# Altium integrated library ST Microcontroller 8-Bit.IntLib: 1326 symbols (part 24 of 31)
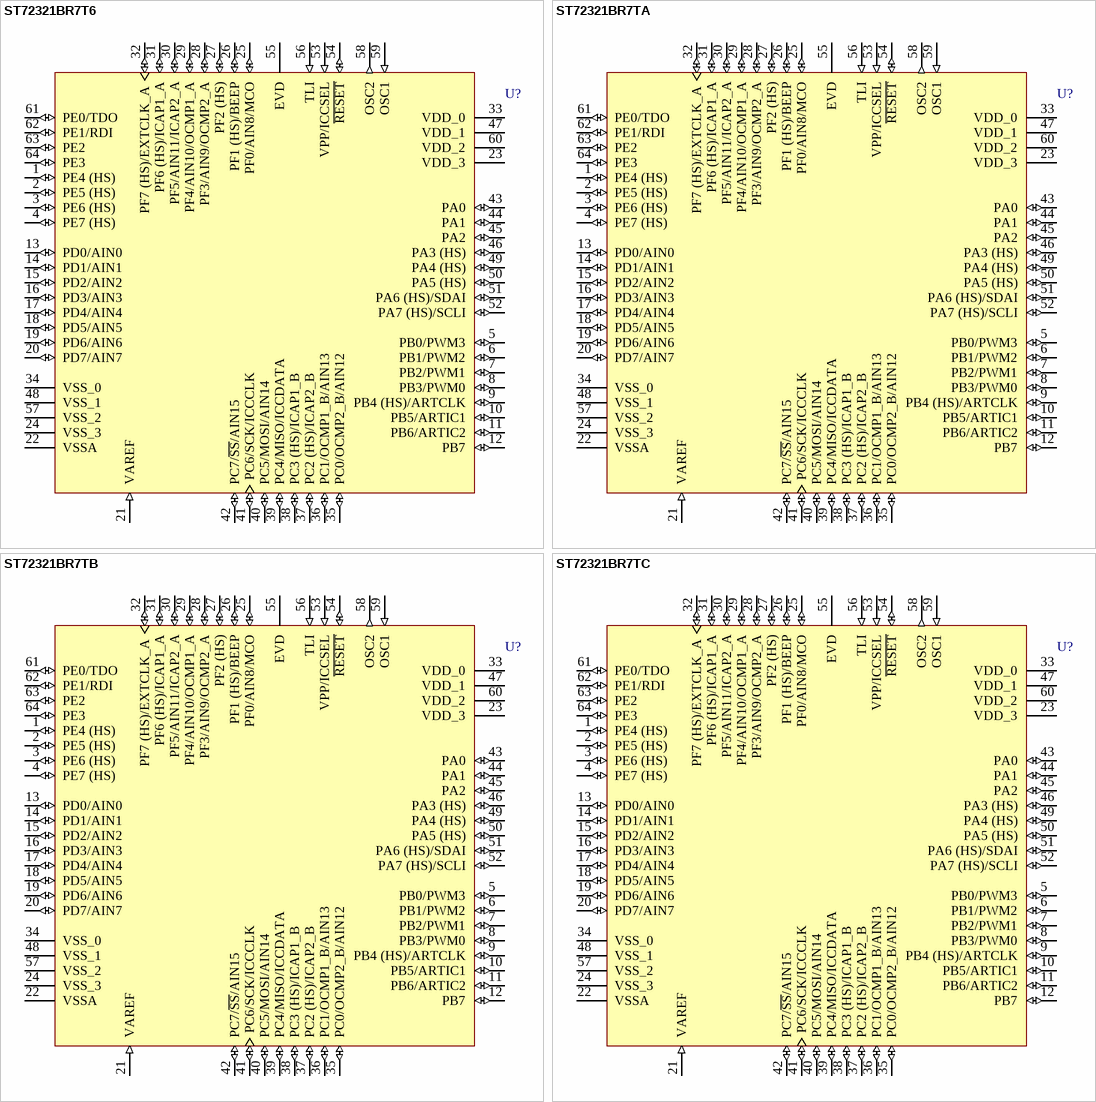
[diagram p190: symbols ST72321BR7T6 to ST72321BR7TC]

## ST72321BR7TC
designator U?
8-Bit MCU with 48k ROM, 1536b RAM, Five Timers, SPI, SCI and I²C Interfaces, 64-Pin TQFP, Automotive; PackageDocument: rev2.4, Jan-2002; Note: Pins 5-12, 25-27 and 43-46 are External Interrupt (EI) pins.; Published: 26-May-2004; DatasheetDocument: rev1.1, Oct-2003; PackageReference: TQFP64-0.8; Publisher: Altium Limited
footprint TQFP64-0.8 (QFP, Thin; 64 Leads; Body 14 x 14 mm; Pitch 0.8 mm)
pins: 1 PE4 (HS) (io), 2 PE5 (HS) (io), 3 PE6 (HS) (io), 4 PE7 (HS) (io), 5 PB0/PWM3 (io), 6 PB1/PWM2 (io), 7 PB2/PWM1 (io), 8 PB3/PWM0 (io), 9 PB4 (HS)/ARTCLK (io), 10 PB5/ARTIC1 (io), 11 PB6/ARTIC2 (io), 12 PB7 (io), 13 PD0/AIN0 (io), 14 PD1/AIN1 (io), 15 PD2/AIN2 (io), 16 PD3/AIN3 (io), 17 PD4/AIN4 (io), 18 PD5/AIN5 (io), 19 PD6/AIN6 (io), 20 PD7/AIN7 (io), 21 VAREF (in), 22 VSSA (power), 23 VDD_3 (power), 24 VSS_3 (power), 25 PF0/AIN8/MCO (io), 26 PF1 (HS)/BEEP (io), 27 PF2 (HS) (io), 28 PF3/AIN9/OCMP2_A (io), 29 PF4/AIN10/OCMP1_A (io), 30 PF5/AIN11/ICAP2_A (io), 31 PF6 (HS)/ICAP1_A (io), 32 PF7 (HS)/EXTCLK_A (io), 33 VDD_0 (power), 34 VSS_0 (power), 35 PC0/OCMP2_B/AIN12 (io), 36 PC1/OCMP1_B/AIN13 (io), 37 PC2 (HS)/ICAP2_B (io), 38 PC3 (HS)/ICAP1_B (io), 39 PC4/MISO/ICCDATA (io), 40 PC5/MOSI/AIN14 (io), 41 PC6/SCK/ICCCLK (io), 42 PC7/~{SS}/AIN15 (io), 43 PA0 (io), 44 PA1 (io), 45 PA2 (io), 46 PA3 (HS) (io), 47 VDD_1 (power), 48 VSS_1 (power), 49 PA4 (HS) (io), 50 PA5 (HS) (io), 51 PA6 (HS)/SDAI (io), 52 PA7 (HS)/SCLI (io), 53 VPP/ICCSEL (in), 54 ~{RESET} (io), 55 EVD, 56 TLI (in), 57 VSS_2 (power), 58 OSC2 (out), 59 OSC1 (in), 60 VDD_2 (power), 61 PE0/TDO (io), 62 PE1/RDI (io), 63 PE2 (io), 64 PE3 (io)

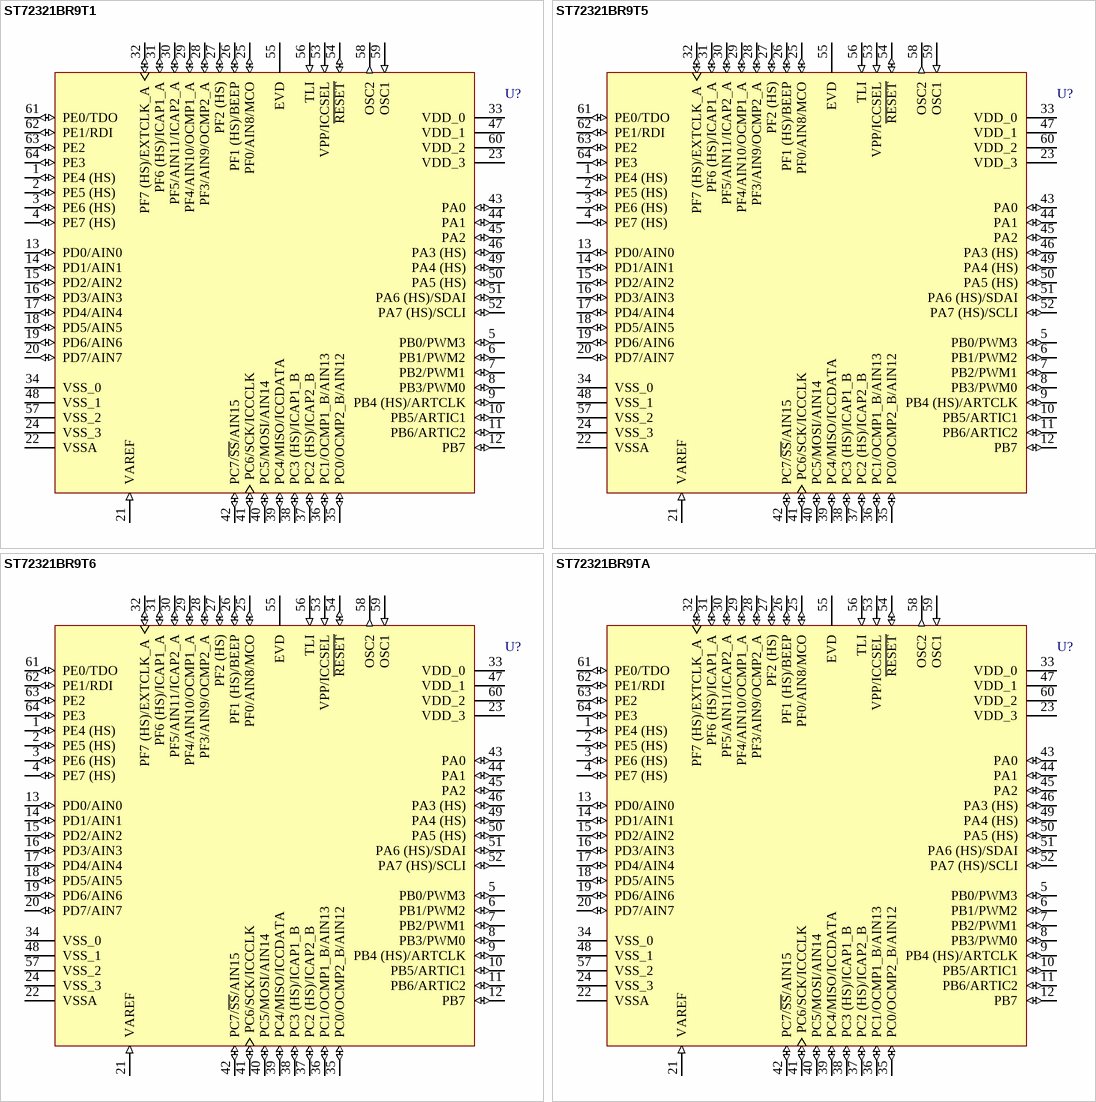
[diagram p122: symbols ST72321BR9T1 to ST72321BR9TA]

## ST72321BR9T1
designator U?
8-Bit MCU with 60k ROM, 2048b RAM, Five Timers, SPI, SCI and I²C Interfaces, 64-Pin TQFP, Standard; PackageDocument: rev2.4, Jan-2002; Note: Pins 5-12, 25-27 and 43-46 are External Interrupt (EI) pins.; Published: 26-May-2004; DatasheetDocument: rev1.1, Oct-2003; PackageReference: TQFP64-0.8; Publisher: Altium Limited
footprint TQFP64-0.8 (QFP, Thin; 64 Leads; Body 14 x 14 mm; Pitch 0.8 mm)
pins: 1 PE4 (HS) (io), 2 PE5 (HS) (io), 3 PE6 (HS) (io), 4 PE7 (HS) (io), 5 PB0/PWM3 (io), 6 PB1/PWM2 (io), 7 PB2/PWM1 (io), 8 PB3/PWM0 (io), 9 PB4 (HS)/ARTCLK (io), 10 PB5/ARTIC1 (io), 11 PB6/ARTIC2 (io), 12 PB7 (io), 13 PD0/AIN0 (io), 14 PD1/AIN1 (io), 15 PD2/AIN2 (io), 16 PD3/AIN3 (io), 17 PD4/AIN4 (io), 18 PD5/AIN5 (io), 19 PD6/AIN6 (io), 20 PD7/AIN7 (io), 21 VAREF (in), 22 VSSA (power), 23 VDD_3 (power), 24 VSS_3 (power), 25 PF0/AIN8/MCO (io), 26 PF1 (HS)/BEEP (io), 27 PF2 (HS) (io), 28 PF3/AIN9/OCMP2_A (io), 29 PF4/AIN10/OCMP1_A (io), 30 PF5/AIN11/ICAP2_A (io), 31 PF6 (HS)/ICAP1_A (io), 32 PF7 (HS)/EXTCLK_A (io), 33 VDD_0 (power), 34 VSS_0 (power), 35 PC0/OCMP2_B/AIN12 (io), 36 PC1/OCMP1_B/AIN13 (io), 37 PC2 (HS)/ICAP2_B (io), 38 PC3 (HS)/ICAP1_B (io), 39 PC4/MISO/ICCDATA (io), 40 PC5/MOSI/AIN14 (io), 41 PC6/SCK/ICCCLK (io), 42 PC7/~{SS}/AIN15 (io), 43 PA0 (io), 44 PA1 (io), 45 PA2 (io), 46 PA3 (HS) (io), 47 VDD_1 (power), 48 VSS_1 (power), 49 PA4 (HS) (io), 50 PA5 (HS) (io), 51 PA6 (HS)/SDAI (io), 52 PA7 (HS)/SCLI (io), 53 VPP/ICCSEL (in), 54 ~{RESET} (io), 55 EVD, 56 TLI (in), 57 VSS_2 (power), 58 OSC2 (out), 59 OSC1 (in), 60 VDD_2 (power), 61 PE0/TDO (io), 62 PE1/RDI (io), 63 PE2 (io), 64 PE3 (io)

## ST72321BR9T5
designator U?
8-Bit MCU with 60k ROM, 2048b RAM, Five Timers, SPI, SCI and I²C Interfaces, 64-Pin TQFP, Standard; PackageDocument: rev2.4, Jan-2002; Note: Pins 5-12, 25-27 and 43-46 are External Interrupt (EI) pins.; Published: 26-May-2004; DatasheetDocument: rev1.1, Oct-2003; PackageReference: TQFP64-0.8; Publisher: Altium Limited
footprint TQFP64-0.8 (QFP, Thin; 64 Leads; Body 14 x 14 mm; Pitch 0.8 mm)
pins: 1 PE4 (HS) (io), 2 PE5 (HS) (io), 3 PE6 (HS) (io), 4 PE7 (HS) (io), 5 PB0/PWM3 (io), 6 PB1/PWM2 (io), 7 PB2/PWM1 (io), 8 PB3/PWM0 (io), 9 PB4 (HS)/ARTCLK (io), 10 PB5/ARTIC1 (io), 11 PB6/ARTIC2 (io), 12 PB7 (io), 13 PD0/AIN0 (io), 14 PD1/AIN1 (io), 15 PD2/AIN2 (io), 16 PD3/AIN3 (io), 17 PD4/AIN4 (io), 18 PD5/AIN5 (io), 19 PD6/AIN6 (io), 20 PD7/AIN7 (io), 21 VAREF (in), 22 VSSA (power), 23 VDD_3 (power), 24 VSS_3 (power), 25 PF0/AIN8/MCO (io), 26 PF1 (HS)/BEEP (io), 27 PF2 (HS) (io), 28 PF3/AIN9/OCMP2_A (io), 29 PF4/AIN10/OCMP1_A (io), 30 PF5/AIN11/ICAP2_A (io), 31 PF6 (HS)/ICAP1_A (io), 32 PF7 (HS)/EXTCLK_A (io), 33 VDD_0 (power), 34 VSS_0 (power), 35 PC0/OCMP2_B/AIN12 (io), 36 PC1/OCMP1_B/AIN13 (io), 37 PC2 (HS)/ICAP2_B (io), 38 PC3 (HS)/ICAP1_B (io), 39 PC4/MISO/ICCDATA (io), 40 PC5/MOSI/AIN14 (io), 41 PC6/SCK/ICCCLK (io), 42 PC7/~{SS}/AIN15 (io), 43 PA0 (io), 44 PA1 (io), 45 PA2 (io), 46 PA3 (HS) (io), 47 VDD_1 (power), 48 VSS_1 (power), 49 PA4 (HS) (io), 50 PA5 (HS) (io), 51 PA6 (HS)/SDAI (io), 52 PA7 (HS)/SCLI (io), 53 VPP/ICCSEL (in), 54 ~{RESET} (io), 55 EVD, 56 TLI (in), 57 VSS_2 (power), 58 OSC2 (out), 59 OSC1 (in), 60 VDD_2 (power), 61 PE0/TDO (io), 62 PE1/RDI (io), 63 PE2 (io), 64 PE3 (io)

## ST72321BR9T6
designator U?
8-Bit MCU with 60k ROM, 2048b RAM, Five Timers, SPI, SCI and I²C Interfaces, 64-Pin TQFP, Standard; PackageDocument: rev2.4, Jan-2002; Note: Pins 5-12, 25-27 and 43-46 are External Interrupt (EI) pins.; Published: 26-May-2004; DatasheetDocument: rev1.1, Oct-2003; PackageReference: TQFP64-0.8; Publisher: Altium Limited
footprint TQFP64-0.8 (QFP, Thin; 64 Leads; Body 14 x 14 mm; Pitch 0.8 mm)
pins: 1 PE4 (HS) (io), 2 PE5 (HS) (io), 3 PE6 (HS) (io), 4 PE7 (HS) (io), 5 PB0/PWM3 (io), 6 PB1/PWM2 (io), 7 PB2/PWM1 (io), 8 PB3/PWM0 (io), 9 PB4 (HS)/ARTCLK (io), 10 PB5/ARTIC1 (io), 11 PB6/ARTIC2 (io), 12 PB7 (io), 13 PD0/AIN0 (io), 14 PD1/AIN1 (io), 15 PD2/AIN2 (io), 16 PD3/AIN3 (io), 17 PD4/AIN4 (io), 18 PD5/AIN5 (io), 19 PD6/AIN6 (io), 20 PD7/AIN7 (io), 21 VAREF (in), 22 VSSA (power), 23 VDD_3 (power), 24 VSS_3 (power), 25 PF0/AIN8/MCO (io), 26 PF1 (HS)/BEEP (io), 27 PF2 (HS) (io), 28 PF3/AIN9/OCMP2_A (io), 29 PF4/AIN10/OCMP1_A (io), 30 PF5/AIN11/ICAP2_A (io), 31 PF6 (HS)/ICAP1_A (io), 32 PF7 (HS)/EXTCLK_A (io), 33 VDD_0 (power), 34 VSS_0 (power), 35 PC0/OCMP2_B/AIN12 (io), 36 PC1/OCMP1_B/AIN13 (io), 37 PC2 (HS)/ICAP2_B (io), 38 PC3 (HS)/ICAP1_B (io), 39 PC4/MISO/ICCDATA (io), 40 PC5/MOSI/AIN14 (io), 41 PC6/SCK/ICCCLK (io), 42 PC7/~{SS}/AIN15 (io), 43 PA0 (io), 44 PA1 (io), 45 PA2 (io), 46 PA3 (HS) (io), 47 VDD_1 (power), 48 VSS_1 (power), 49 PA4 (HS) (io), 50 PA5 (HS) (io), 51 PA6 (HS)/SDAI (io), 52 PA7 (HS)/SCLI (io), 53 VPP/ICCSEL (in), 54 ~{RESET} (io), 55 EVD, 56 TLI (in), 57 VSS_2 (power), 58 OSC2 (out), 59 OSC1 (in), 60 VDD_2 (power), 61 PE0/TDO (io), 62 PE1/RDI (io), 63 PE2 (io), 64 PE3 (io)

## ST72321BR9TA
designator U?
8-Bit MCU with 60k ROM, 2048b RAM, Five Timers, SPI, SCI and I²C Interfaces, 64-Pin TQFP, Automotive; PackageDocument: rev2.4, Jan-2002; Note: Pins 5-12, 25-27 and 43-46 are External Interrupt (EI) pins.; Published: 26-May-2004; DatasheetDocument: rev1.1, Oct-2003; PackageReference: TQFP64-0.8; Publisher: Altium Limited
footprint TQFP64-0.8 (QFP, Thin; 64 Leads; Body 14 x 14 mm; Pitch 0.8 mm)
pins: 1 PE4 (HS) (io), 2 PE5 (HS) (io), 3 PE6 (HS) (io), 4 PE7 (HS) (io), 5 PB0/PWM3 (io), 6 PB1/PWM2 (io), 7 PB2/PWM1 (io), 8 PB3/PWM0 (io), 9 PB4 (HS)/ARTCLK (io), 10 PB5/ARTIC1 (io), 11 PB6/ARTIC2 (io), 12 PB7 (io), 13 PD0/AIN0 (io), 14 PD1/AIN1 (io), 15 PD2/AIN2 (io), 16 PD3/AIN3 (io), 17 PD4/AIN4 (io), 18 PD5/AIN5 (io), 19 PD6/AIN6 (io), 20 PD7/AIN7 (io), 21 VAREF (in), 22 VSSA (power), 23 VDD_3 (power), 24 VSS_3 (power), 25 PF0/AIN8/MCO (io), 26 PF1 (HS)/BEEP (io), 27 PF2 (HS) (io), 28 PF3/AIN9/OCMP2_A (io), 29 PF4/AIN10/OCMP1_A (io), 30 PF5/AIN11/ICAP2_A (io), 31 PF6 (HS)/ICAP1_A (io), 32 PF7 (HS)/EXTCLK_A (io), 33 VDD_0 (power), 34 VSS_0 (power), 35 PC0/OCMP2_B/AIN12 (io), 36 PC1/OCMP1_B/AIN13 (io), 37 PC2 (HS)/ICAP2_B (io), 38 PC3 (HS)/ICAP1_B (io), 39 PC4/MISO/ICCDATA (io), 40 PC5/MOSI/AIN14 (io), 41 PC6/SCK/ICCCLK (io), 42 PC7/~{SS}/AIN15 (io), 43 PA0 (io), 44 PA1 (io), 45 PA2 (io), 46 PA3 (HS) (io), 47 VDD_1 (power), 48 VSS_1 (power), 49 PA4 (HS) (io), 50 PA5 (HS) (io), 51 PA6 (HS)/SDAI (io), 52 PA7 (HS)/SCLI (io), 53 VPP/ICCSEL (in), 54 ~{RESET} (io), 55 EVD, 56 TLI (in), 57 VSS_2 (power), 58 OSC2 (out), 59 OSC1 (in), 60 VDD_2 (power), 61 PE0/TDO (io), 62 PE1/RDI (io), 63 PE2 (io), 64 PE3 (io)

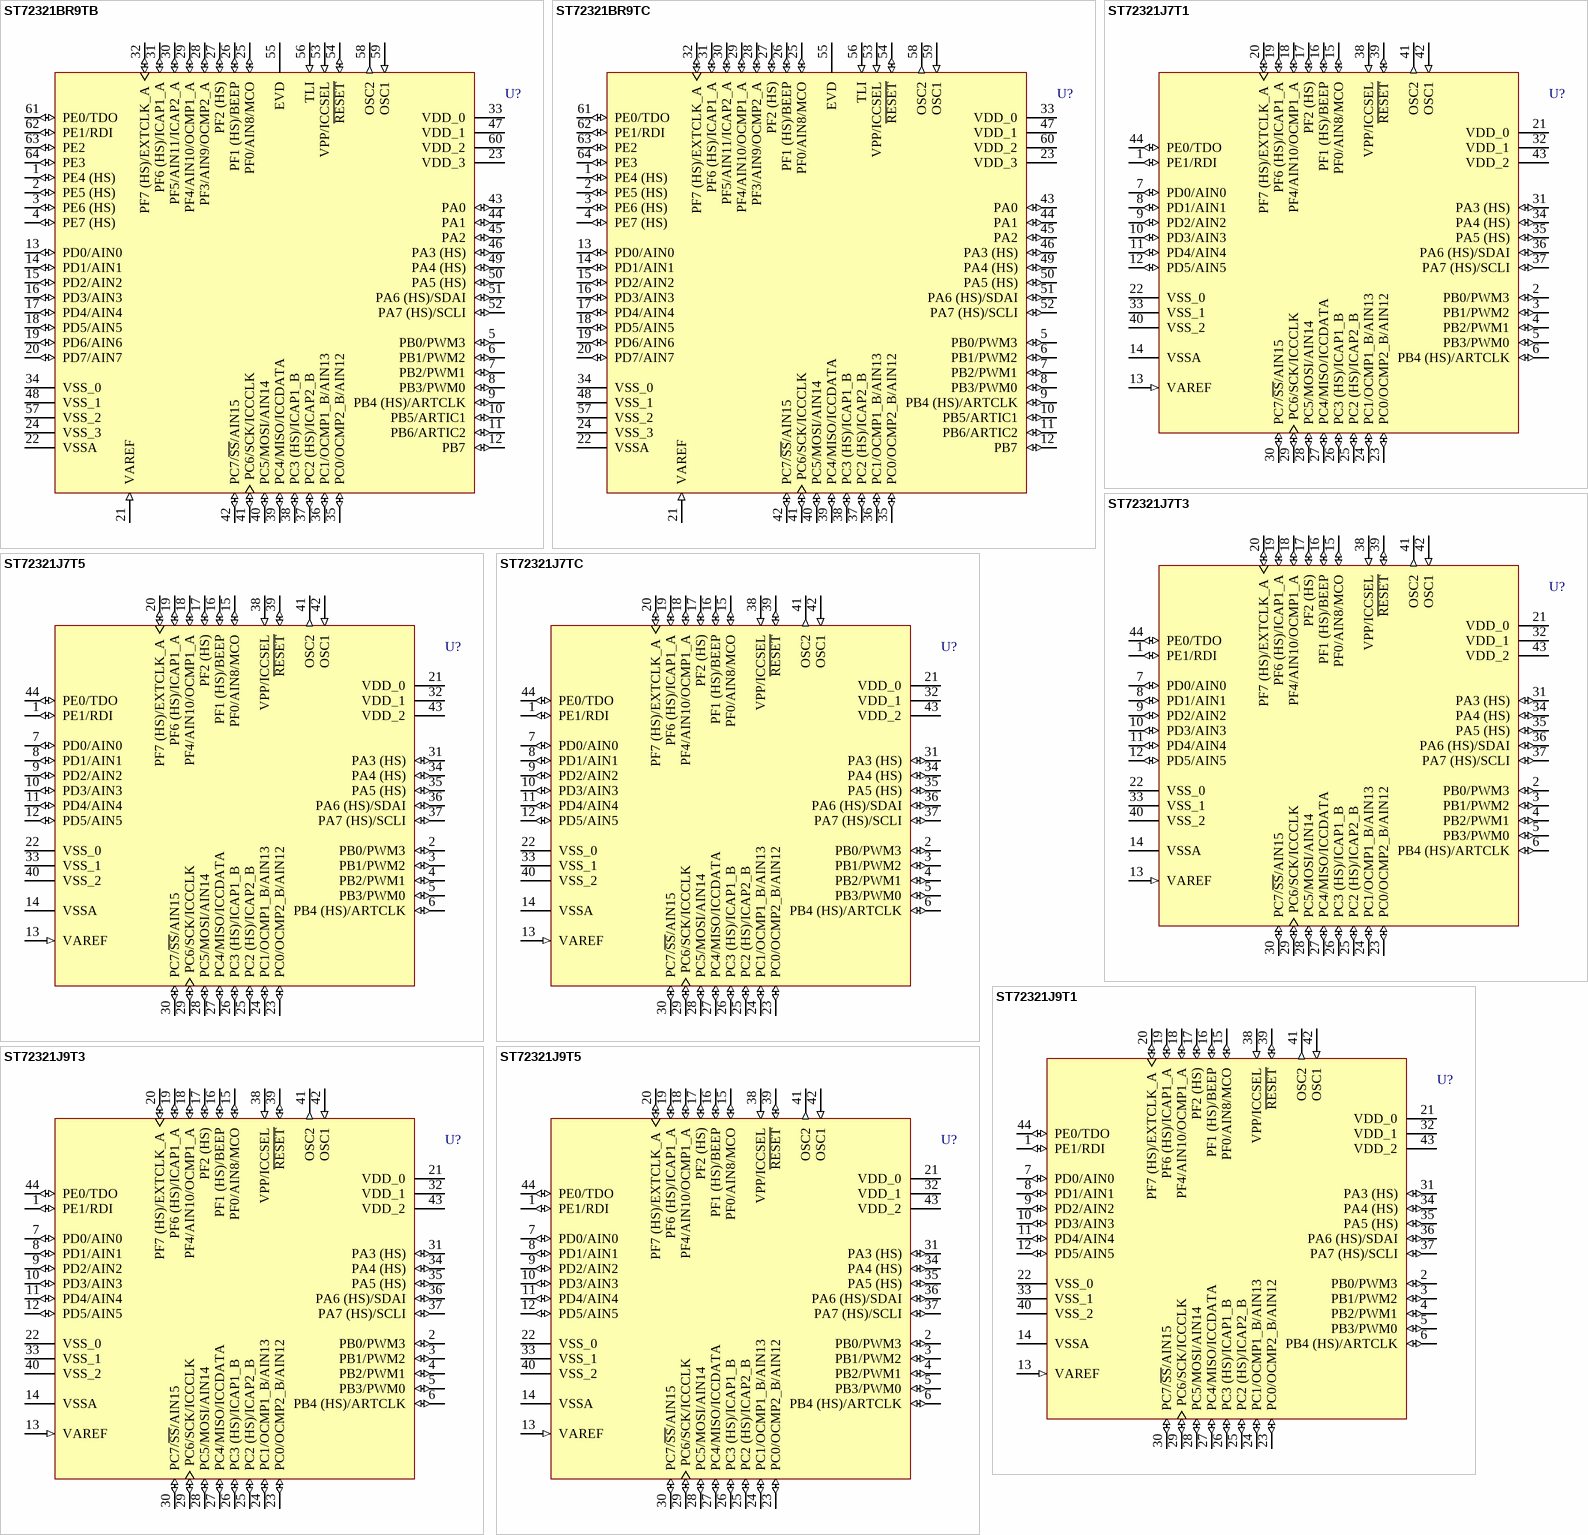
[diagram p123: symbols ST72321BR9TB to ST72321J9T5]

## ST72321BR9TB
designator U?
8-Bit MCU with 60k ROM, 2048b RAM, Five Timers, SPI, SCI and I²C Interfaces, 64-Pin TQFP, Automotive; PackageDocument: rev2.4, Jan-2002; Note: Pins 5-12, 25-27 and 43-46 are External Interrupt (EI) pins.; Published: 26-May-2004; DatasheetDocument: rev1.1, Oct-2003; PackageReference: TQFP64-0.8; Publisher: Altium Limited
footprint TQFP64-0.8 (QFP, Thin; 64 Leads; Body 14 x 14 mm; Pitch 0.8 mm)
pins: 1 PE4 (HS) (io), 2 PE5 (HS) (io), 3 PE6 (HS) (io), 4 PE7 (HS) (io), 5 PB0/PWM3 (io), 6 PB1/PWM2 (io), 7 PB2/PWM1 (io), 8 PB3/PWM0 (io), 9 PB4 (HS)/ARTCLK (io), 10 PB5/ARTIC1 (io), 11 PB6/ARTIC2 (io), 12 PB7 (io), 13 PD0/AIN0 (io), 14 PD1/AIN1 (io), 15 PD2/AIN2 (io), 16 PD3/AIN3 (io), 17 PD4/AIN4 (io), 18 PD5/AIN5 (io), 19 PD6/AIN6 (io), 20 PD7/AIN7 (io), 21 VAREF (in), 22 VSSA (power), 23 VDD_3 (power), 24 VSS_3 (power), 25 PF0/AIN8/MCO (io), 26 PF1 (HS)/BEEP (io), 27 PF2 (HS) (io), 28 PF3/AIN9/OCMP2_A (io), 29 PF4/AIN10/OCMP1_A (io), 30 PF5/AIN11/ICAP2_A (io), 31 PF6 (HS)/ICAP1_A (io), 32 PF7 (HS)/EXTCLK_A (io), 33 VDD_0 (power), 34 VSS_0 (power), 35 PC0/OCMP2_B/AIN12 (io), 36 PC1/OCMP1_B/AIN13 (io), 37 PC2 (HS)/ICAP2_B (io), 38 PC3 (HS)/ICAP1_B (io), 39 PC4/MISO/ICCDATA (io), 40 PC5/MOSI/AIN14 (io), 41 PC6/SCK/ICCCLK (io), 42 PC7/~{SS}/AIN15 (io), 43 PA0 (io), 44 PA1 (io), 45 PA2 (io), 46 PA3 (HS) (io), 47 VDD_1 (power), 48 VSS_1 (power), 49 PA4 (HS) (io), 50 PA5 (HS) (io), 51 PA6 (HS)/SDAI (io), 52 PA7 (HS)/SCLI (io), 53 VPP/ICCSEL (in), 54 ~{RESET} (io), 55 EVD, 56 TLI (in), 57 VSS_2 (power), 58 OSC2 (out), 59 OSC1 (in), 60 VDD_2 (power), 61 PE0/TDO (io), 62 PE1/RDI (io), 63 PE2 (io), 64 PE3 (io)

## ST72321BR9TC
designator U?
8-Bit MCU with 60k ROM, 2048b RAM, Five Timers, SPI, SCI and I²C Interfaces, 64-Pin TQFP, Automotive; PackageDocument: rev2.4, Jan-2002; Note: Pins 5-12, 25-27 and 43-46 are External Interrupt (EI) pins.; Published: 26-May-2004; DatasheetDocument: rev1.1, Oct-2003; PackageReference: TQFP64-0.8; Publisher: Altium Limited
footprint TQFP64-0.8 (QFP, Thin; 64 Leads; Body 14 x 14 mm; Pitch 0.8 mm)
pins: 1 PE4 (HS) (io), 2 PE5 (HS) (io), 3 PE6 (HS) (io), 4 PE7 (HS) (io), 5 PB0/PWM3 (io), 6 PB1/PWM2 (io), 7 PB2/PWM1 (io), 8 PB3/PWM0 (io), 9 PB4 (HS)/ARTCLK (io), 10 PB5/ARTIC1 (io), 11 PB6/ARTIC2 (io), 12 PB7 (io), 13 PD0/AIN0 (io), 14 PD1/AIN1 (io), 15 PD2/AIN2 (io), 16 PD3/AIN3 (io), 17 PD4/AIN4 (io), 18 PD5/AIN5 (io), 19 PD6/AIN6 (io), 20 PD7/AIN7 (io), 21 VAREF (in), 22 VSSA (power), 23 VDD_3 (power), 24 VSS_3 (power), 25 PF0/AIN8/MCO (io), 26 PF1 (HS)/BEEP (io), 27 PF2 (HS) (io), 28 PF3/AIN9/OCMP2_A (io), 29 PF4/AIN10/OCMP1_A (io), 30 PF5/AIN11/ICAP2_A (io), 31 PF6 (HS)/ICAP1_A (io), 32 PF7 (HS)/EXTCLK_A (io), 33 VDD_0 (power), 34 VSS_0 (power), 35 PC0/OCMP2_B/AIN12 (io), 36 PC1/OCMP1_B/AIN13 (io), 37 PC2 (HS)/ICAP2_B (io), 38 PC3 (HS)/ICAP1_B (io), 39 PC4/MISO/ICCDATA (io), 40 PC5/MOSI/AIN14 (io), 41 PC6/SCK/ICCCLK (io), 42 PC7/~{SS}/AIN15 (io), 43 PA0 (io), 44 PA1 (io), 45 PA2 (io), 46 PA3 (HS) (io), 47 VDD_1 (power), 48 VSS_1 (power), 49 PA4 (HS) (io), 50 PA5 (HS) (io), 51 PA6 (HS)/SDAI (io), 52 PA7 (HS)/SCLI (io), 53 VPP/ICCSEL (in), 54 ~{RESET} (io), 55 EVD, 56 TLI (in), 57 VSS_2 (power), 58 OSC2 (out), 59 OSC1 (in), 60 VDD_2 (power), 61 PE0/TDO (io), 62 PE1/RDI (io), 63 PE2 (io), 64 PE3 (io)

## ST72321J7T1
designator U?
8-Bit 48k ROM MCU with Nested Interrupts, 1536b RAM, 10-Bit ADC, Five Timers, SPI, SCI and I²C Interfaces, 44-Pin TQFP; Note: Pins 2-6, 15-17 and 31 are External Interrupt (EI) pins.; Published: 26-May-2004; DatasheetDocument: rev1.9, Aug-2003; PackageDocument: Oct-2003; PackageReference: TQFP44; Publisher: Altium Limited
footprint TQFP44 (QFP, Plastic, Thin; 44 Leads; Body 10 x 10 mm; Pitch 0.8 mm)
pins: 1 PE1/RDI (io), 2 PB0/PWM3 (io), 3 PB1/PWM2 (io), 4 PB2/PWM1 (io), 5 PB3/PWM0 (io), 6 PB4 (HS)/ARTCLK (io), 7 PD0/AIN0 (io), 8 PD1/AIN1 (io), 9 PD2/AIN2 (io), 10 PD3/AIN3 (io), 11 PD4/AIN4 (io), 12 PD5/AIN5 (io), 13 VAREF (in), 14 VSSA (power), 15 PF0/AIN8/MCO (io), 16 PF1 (HS)/BEEP (io), 17 PF2 (HS) (io), 18 PF4/AIN10/OCMP1_A (io), 19 PF6 (HS)/ICAP1_A (io), 20 PF7 (HS)/EXTCLK_A (io), 21 VDD_0 (power), 22 VSS_0 (power), 23 PC0/OCMP2_B/AIN12 (io), 24 PC1/OCMP1_B/AIN13 (io), 25 PC2 (HS)/ICAP2_B (io), 26 PC3 (HS)/ICAP1_B (io), 27 PC4/MISO/ICCDATA (io), 28 PC5/MOSI/AIN14 (io), 29 PC6/SCK/ICCCLK (io), 30 PC7/~{SS}/AIN15 (io), 31 PA3 (HS) (io), 32 VDD_1 (power), 33 VSS_1 (power), 34 PA4 (HS) (io), 35 PA5 (HS) (io), 36 PA6 (HS)/SDAI (io), 37 PA7 (HS)/SCLI (io), 38 VPP/ICCSEL (in), 39 ~{RESET} (io), 40 VSS_2 (power), 41 OSC2 (out), 42 OSC1 (in), 43 VDD_2 (power), 44 PE0/TDO (io)

## ST72321J7T3
designator U?
8-Bit 48k ROM MCU with Nested Interrupts, 1536b RAM, 10-Bit ADC, Five Timers, SPI, SCI and I²C Interfaces, 44-Pin TQFP; Note: Pins 2-6, 15-17 and 31 are External Interrupt (EI) pins.; Published: 26-May-2004; DatasheetDocument: rev1.9, Aug-2003; PackageDocument: Oct-2003; PackageReference: TQFP44; Publisher: Altium Limited
footprint TQFP44 (QFP, Plastic, Thin; 44 Leads; Body 10 x 10 mm; Pitch 0.8 mm)
pins: 1 PE1/RDI (io), 2 PB0/PWM3 (io), 3 PB1/PWM2 (io), 4 PB2/PWM1 (io), 5 PB3/PWM0 (io), 6 PB4 (HS)/ARTCLK (io), 7 PD0/AIN0 (io), 8 PD1/AIN1 (io), 9 PD2/AIN2 (io), 10 PD3/AIN3 (io), 11 PD4/AIN4 (io), 12 PD5/AIN5 (io), 13 VAREF (in), 14 VSSA (power), 15 PF0/AIN8/MCO (io), 16 PF1 (HS)/BEEP (io), 17 PF2 (HS) (io), 18 PF4/AIN10/OCMP1_A (io), 19 PF6 (HS)/ICAP1_A (io), 20 PF7 (HS)/EXTCLK_A (io), 21 VDD_0 (power), 22 VSS_0 (power), 23 PC0/OCMP2_B/AIN12 (io), 24 PC1/OCMP1_B/AIN13 (io), 25 PC2 (HS)/ICAP2_B (io), 26 PC3 (HS)/ICAP1_B (io), 27 PC4/MISO/ICCDATA (io), 28 PC5/MOSI/AIN14 (io), 29 PC6/SCK/ICCCLK (io), 30 PC7/~{SS}/AIN15 (io), 31 PA3 (HS) (io), 32 VDD_1 (power), 33 VSS_1 (power), 34 PA4 (HS) (io), 35 PA5 (HS) (io), 36 PA6 (HS)/SDAI (io), 37 PA7 (HS)/SCLI (io), 38 VPP/ICCSEL (in), 39 ~{RESET} (io), 40 VSS_2 (power), 41 OSC2 (out), 42 OSC1 (in), 43 VDD_2 (power), 44 PE0/TDO (io)

## ST72321J7T5
designator U?
8-Bit 48k ROM MCU with Nested Interrupts, 1536b RAM, 10-Bit ADC, Five Timers, SPI, SCI and I²C Interfaces, 44-Pin TQFP; Note: Pins 2-6, 15-17 and 31 are External Interrupt (EI) pins.; Published: 26-May-2004; DatasheetDocument: rev1.9, Aug-2003; PackageDocument: Oct-2003; PackageReference: TQFP44; Publisher: Altium Limited
footprint TQFP44 (QFP, Plastic, Thin; 44 Leads; Body 10 x 10 mm; Pitch 0.8 mm)
pins: 1 PE1/RDI (io), 2 PB0/PWM3 (io), 3 PB1/PWM2 (io), 4 PB2/PWM1 (io), 5 PB3/PWM0 (io), 6 PB4 (HS)/ARTCLK (io), 7 PD0/AIN0 (io), 8 PD1/AIN1 (io), 9 PD2/AIN2 (io), 10 PD3/AIN3 (io), 11 PD4/AIN4 (io), 12 PD5/AIN5 (io), 13 VAREF (in), 14 VSSA (power), 15 PF0/AIN8/MCO (io), 16 PF1 (HS)/BEEP (io), 17 PF2 (HS) (io), 18 PF4/AIN10/OCMP1_A (io), 19 PF6 (HS)/ICAP1_A (io), 20 PF7 (HS)/EXTCLK_A (io), 21 VDD_0 (power), 22 VSS_0 (power), 23 PC0/OCMP2_B/AIN12 (io), 24 PC1/OCMP1_B/AIN13 (io), 25 PC2 (HS)/ICAP2_B (io), 26 PC3 (HS)/ICAP1_B (io), 27 PC4/MISO/ICCDATA (io), 28 PC5/MOSI/AIN14 (io), 29 PC6/SCK/ICCCLK (io), 30 PC7/~{SS}/AIN15 (io), 31 PA3 (HS) (io), 32 VDD_1 (power), 33 VSS_1 (power), 34 PA4 (HS) (io), 35 PA5 (HS) (io), 36 PA6 (HS)/SDAI (io), 37 PA7 (HS)/SCLI (io), 38 VPP/ICCSEL (in), 39 ~{RESET} (io), 40 VSS_2 (power), 41 OSC2 (out), 42 OSC1 (in), 43 VDD_2 (power), 44 PE0/TDO (io)

## ST72321J7TC
designator U?
8-Bit 48k ROM MCU with Nested Interrupts, 1536b RAM, 10-Bit ADC, Five Timers, SPI, SCI and I²C Interfaces, 44-Pin TQFP; Note: Pins 2-6, 15-17 and 31 are External Interrupt (EI) pins.; Published: 26-May-2004; DatasheetDocument: rev1.9, Aug-2003; PackageDocument: Oct-2003; PackageReference: TQFP44; Publisher: Altium Limited
footprint TQFP44 (QFP, Plastic, Thin; 44 Leads; Body 10 x 10 mm; Pitch 0.8 mm)
pins: 1 PE1/RDI (io), 2 PB0/PWM3 (io), 3 PB1/PWM2 (io), 4 PB2/PWM1 (io), 5 PB3/PWM0 (io), 6 PB4 (HS)/ARTCLK (io), 7 PD0/AIN0 (io), 8 PD1/AIN1 (io), 9 PD2/AIN2 (io), 10 PD3/AIN3 (io), 11 PD4/AIN4 (io), 12 PD5/AIN5 (io), 13 VAREF (in), 14 VSSA (power), 15 PF0/AIN8/MCO (io), 16 PF1 (HS)/BEEP (io), 17 PF2 (HS) (io), 18 PF4/AIN10/OCMP1_A (io), 19 PF6 (HS)/ICAP1_A (io), 20 PF7 (HS)/EXTCLK_A (io), 21 VDD_0 (power), 22 VSS_0 (power), 23 PC0/OCMP2_B/AIN12 (io), 24 PC1/OCMP1_B/AIN13 (io), 25 PC2 (HS)/ICAP2_B (io), 26 PC3 (HS)/ICAP1_B (io), 27 PC4/MISO/ICCDATA (io), 28 PC5/MOSI/AIN14 (io), 29 PC6/SCK/ICCCLK (io), 30 PC7/~{SS}/AIN15 (io), 31 PA3 (HS) (io), 32 VDD_1 (power), 33 VSS_1 (power), 34 PA4 (HS) (io), 35 PA5 (HS) (io), 36 PA6 (HS)/SDAI (io), 37 PA7 (HS)/SCLI (io), 38 VPP/ICCSEL (in), 39 ~{RESET} (io), 40 VSS_2 (power), 41 OSC2 (out), 42 OSC1 (in), 43 VDD_2 (power), 44 PE0/TDO (io)

## ST72321J9T1
designator U?
8-Bit 60k ROM MCU with Nested Interrupts, 2048b RAM, 10-Bit ADC, Five Timers, SPI, SCI and I²C Interfaces, 44-Pin TQFP; Note: Pins 2-6, 15-17 and 31 are External Interrupt (EI) pins.; Published: 26-May-2004; DatasheetDocument: rev1.9, Aug-2003; PackageDocument: Oct-2003; PackageReference: TQFP44; Publisher: Altium Limited
footprint TQFP44 (QFP, Plastic, Thin; 44 Leads; Body 10 x 10 mm; Pitch 0.8 mm)
pins: 1 PE1/RDI (io), 2 PB0/PWM3 (io), 3 PB1/PWM2 (io), 4 PB2/PWM1 (io), 5 PB3/PWM0 (io), 6 PB4 (HS)/ARTCLK (io), 7 PD0/AIN0 (io), 8 PD1/AIN1 (io), 9 PD2/AIN2 (io), 10 PD3/AIN3 (io), 11 PD4/AIN4 (io), 12 PD5/AIN5 (io), 13 VAREF (in), 14 VSSA (power), 15 PF0/AIN8/MCO (io), 16 PF1 (HS)/BEEP (io), 17 PF2 (HS) (io), 18 PF4/AIN10/OCMP1_A (io), 19 PF6 (HS)/ICAP1_A (io), 20 PF7 (HS)/EXTCLK_A (io), 21 VDD_0 (power), 22 VSS_0 (power), 23 PC0/OCMP2_B/AIN12 (io), 24 PC1/OCMP1_B/AIN13 (io), 25 PC2 (HS)/ICAP2_B (io), 26 PC3 (HS)/ICAP1_B (io), 27 PC4/MISO/ICCDATA (io), 28 PC5/MOSI/AIN14 (io), 29 PC6/SCK/ICCCLK (io), 30 PC7/~{SS}/AIN15 (io), 31 PA3 (HS) (io), 32 VDD_1 (power), 33 VSS_1 (power), 34 PA4 (HS) (io), 35 PA5 (HS) (io), 36 PA6 (HS)/SDAI (io), 37 PA7 (HS)/SCLI (io), 38 VPP/ICCSEL (in), 39 ~{RESET} (io), 40 VSS_2 (power), 41 OSC2 (out), 42 OSC1 (in), 43 VDD_2 (power), 44 PE0/TDO (io)

## ST72321J9T3
designator U?
8-Bit 60k ROM MCU with Nested Interrupts, 2048b RAM, 10-Bit ADC, Five Timers, SPI, SCI and I²C Interfaces, 44-Pin TQFP; Note: Pins 2-6, 15-17 and 31 are External Interrupt (EI) pins.; Published: 26-May-2004; DatasheetDocument: rev1.9, Aug-2003; PackageDocument: Oct-2003; PackageReference: TQFP44; Publisher: Altium Limited
footprint TQFP44 (QFP, Plastic, Thin; 44 Leads; Body 10 x 10 mm; Pitch 0.8 mm)
pins: 1 PE1/RDI (io), 2 PB0/PWM3 (io), 3 PB1/PWM2 (io), 4 PB2/PWM1 (io), 5 PB3/PWM0 (io), 6 PB4 (HS)/ARTCLK (io), 7 PD0/AIN0 (io), 8 PD1/AIN1 (io), 9 PD2/AIN2 (io), 10 PD3/AIN3 (io), 11 PD4/AIN4 (io), 12 PD5/AIN5 (io), 13 VAREF (in), 14 VSSA (power), 15 PF0/AIN8/MCO (io), 16 PF1 (HS)/BEEP (io), 17 PF2 (HS) (io), 18 PF4/AIN10/OCMP1_A (io), 19 PF6 (HS)/ICAP1_A (io), 20 PF7 (HS)/EXTCLK_A (io), 21 VDD_0 (power), 22 VSS_0 (power), 23 PC0/OCMP2_B/AIN12 (io), 24 PC1/OCMP1_B/AIN13 (io), 25 PC2 (HS)/ICAP2_B (io), 26 PC3 (HS)/ICAP1_B (io), 27 PC4/MISO/ICCDATA (io), 28 PC5/MOSI/AIN14 (io), 29 PC6/SCK/ICCCLK (io), 30 PC7/~{SS}/AIN15 (io), 31 PA3 (HS) (io), 32 VDD_1 (power), 33 VSS_1 (power), 34 PA4 (HS) (io), 35 PA5 (HS) (io), 36 PA6 (HS)/SDAI (io), 37 PA7 (HS)/SCLI (io), 38 VPP/ICCSEL (in), 39 ~{RESET} (io), 40 VSS_2 (power), 41 OSC2 (out), 42 OSC1 (in), 43 VDD_2 (power), 44 PE0/TDO (io)

## ST72321J9T5
designator U?
8-Bit 60k ROM MCU with Nested Interrupts, 2048b RAM, 10-Bit ADC, Five Timers, SPI, SCI and I²C Interfaces, 44-Pin TQFP; Note: Pins 2-6, 15-17 and 31 are External Interrupt (EI) pins.; Published: 26-May-2004; DatasheetDocument: rev1.9, Aug-2003; PackageDocument: Oct-2003; PackageReference: TQFP44; Publisher: Altium Limited
footprint TQFP44 (QFP, Plastic, Thin; 44 Leads; Body 10 x 10 mm; Pitch 0.8 mm)
pins: 1 PE1/RDI (io), 2 PB0/PWM3 (io), 3 PB1/PWM2 (io), 4 PB2/PWM1 (io), 5 PB3/PWM0 (io), 6 PB4 (HS)/ARTCLK (io), 7 PD0/AIN0 (io), 8 PD1/AIN1 (io), 9 PD2/AIN2 (io), 10 PD3/AIN3 (io), 11 PD4/AIN4 (io), 12 PD5/AIN5 (io), 13 VAREF (in), 14 VSSA (power), 15 PF0/AIN8/MCO (io), 16 PF1 (HS)/BEEP (io), 17 PF2 (HS) (io), 18 PF4/AIN10/OCMP1_A (io), 19 PF6 (HS)/ICAP1_A (io), 20 PF7 (HS)/EXTCLK_A (io), 21 VDD_0 (power), 22 VSS_0 (power), 23 PC0/OCMP2_B/AIN12 (io), 24 PC1/OCMP1_B/AIN13 (io), 25 PC2 (HS)/ICAP2_B (io), 26 PC3 (HS)/ICAP1_B (io), 27 PC4/MISO/ICCDATA (io), 28 PC5/MOSI/AIN14 (io), 29 PC6/SCK/ICCCLK (io), 30 PC7/~{SS}/AIN15 (io), 31 PA3 (HS) (io), 32 VDD_1 (power), 33 VSS_1 (power), 34 PA4 (HS) (io), 35 PA5 (HS) (io), 36 PA6 (HS)/SDAI (io), 37 PA7 (HS)/SCLI (io), 38 VPP/ICCSEL (in), 39 ~{RESET} (io), 40 VSS_2 (power), 41 OSC2 (out), 42 OSC1 (in), 43 VDD_2 (power), 44 PE0/TDO (io)

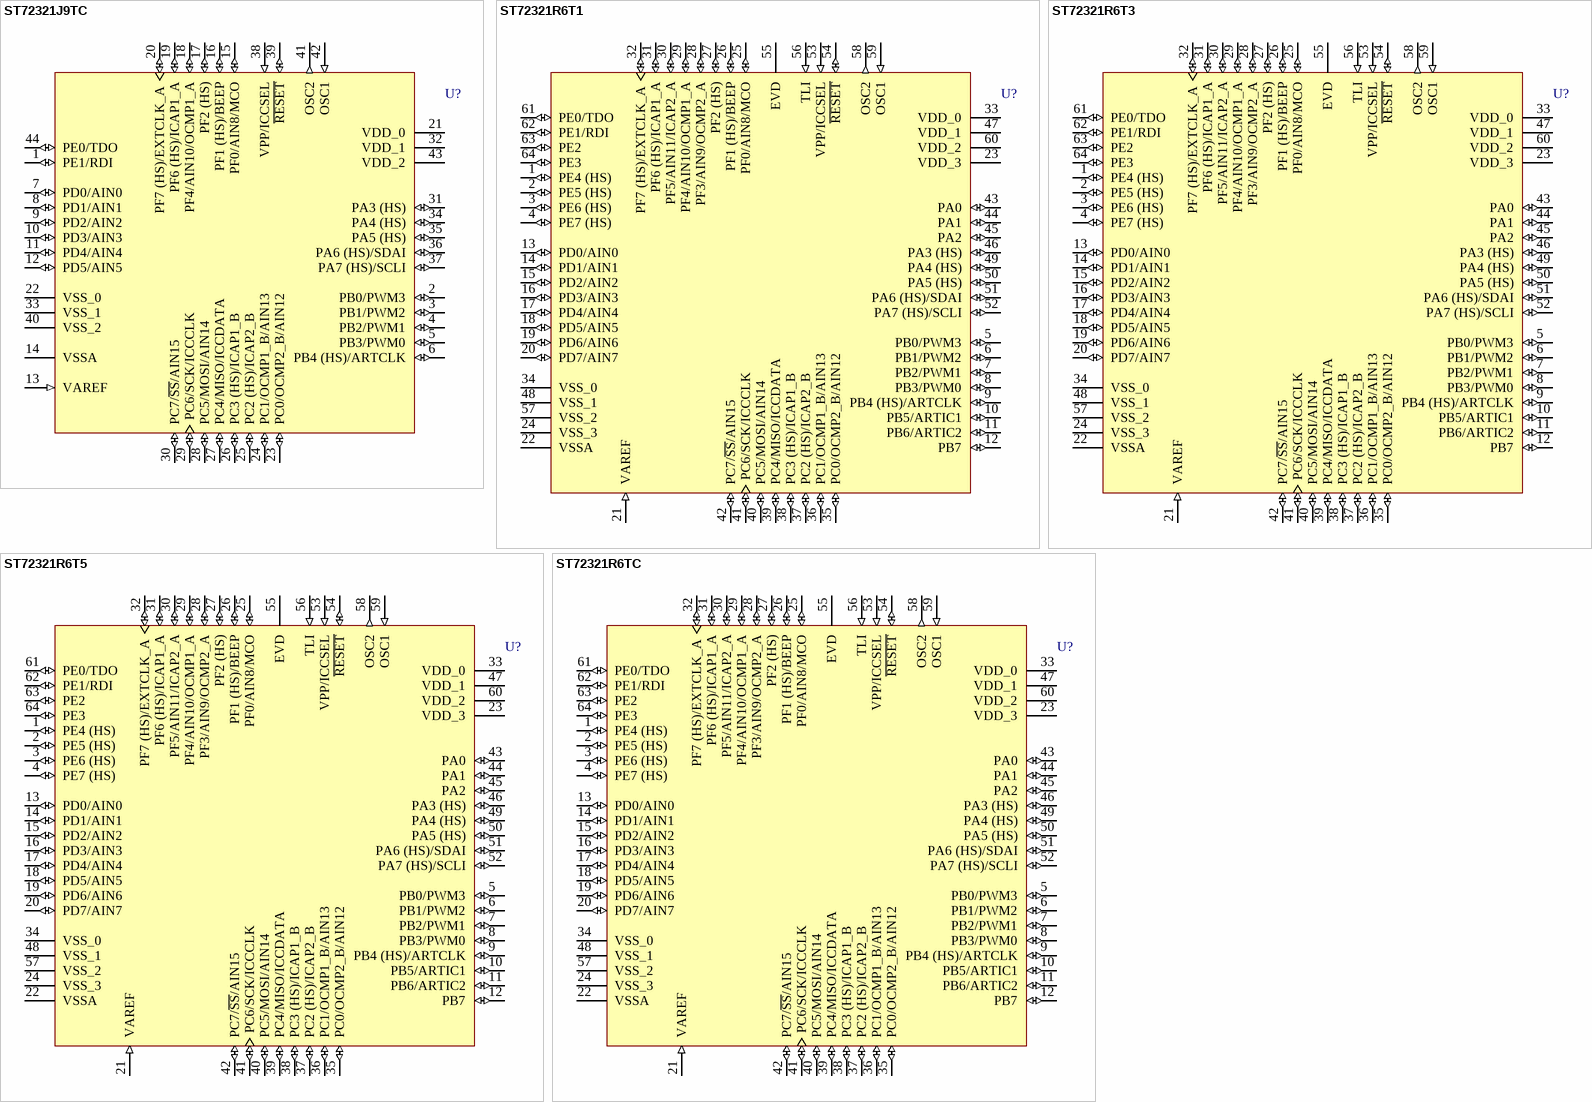
[diagram p124: symbols ST72321J9TC to ST72321R6TC]

## ST72321J9TC
designator U?
8-Bit 60k ROM MCU with Nested Interrupts, 2048b RAM, 10-Bit ADC, Five Timers, SPI, SCI and I²C Interfaces, 44-Pin TQFP; Note: Pins 2-6, 15-17 and 31 are External Interrupt (EI) pins.; Published: 26-May-2004; DatasheetDocument: rev1.9, Aug-2003; PackageDocument: Oct-2003; PackageReference: TQFP44; Publisher: Altium Limited
footprint TQFP44 (QFP, Plastic, Thin; 44 Leads; Body 10 x 10 mm; Pitch 0.8 mm)
pins: 1 PE1/RDI (io), 2 PB0/PWM3 (io), 3 PB1/PWM2 (io), 4 PB2/PWM1 (io), 5 PB3/PWM0 (io), 6 PB4 (HS)/ARTCLK (io), 7 PD0/AIN0 (io), 8 PD1/AIN1 (io), 9 PD2/AIN2 (io), 10 PD3/AIN3 (io), 11 PD4/AIN4 (io), 12 PD5/AIN5 (io), 13 VAREF (in), 14 VSSA (power), 15 PF0/AIN8/MCO (io), 16 PF1 (HS)/BEEP (io), 17 PF2 (HS) (io), 18 PF4/AIN10/OCMP1_A (io), 19 PF6 (HS)/ICAP1_A (io), 20 PF7 (HS)/EXTCLK_A (io), 21 VDD_0 (power), 22 VSS_0 (power), 23 PC0/OCMP2_B/AIN12 (io), 24 PC1/OCMP1_B/AIN13 (io), 25 PC2 (HS)/ICAP2_B (io), 26 PC3 (HS)/ICAP1_B (io), 27 PC4/MISO/ICCDATA (io), 28 PC5/MOSI/AIN14 (io), 29 PC6/SCK/ICCCLK (io), 30 PC7/~{SS}/AIN15 (io), 31 PA3 (HS) (io), 32 VDD_1 (power), 33 VSS_1 (power), 34 PA4 (HS) (io), 35 PA5 (HS) (io), 36 PA6 (HS)/SDAI (io), 37 PA7 (HS)/SCLI (io), 38 VPP/ICCSEL (in), 39 ~{RESET} (io), 40 VSS_2 (power), 41 OSC2 (out), 42 OSC1 (in), 43 VDD_2 (power), 44 PE0/TDO (io)

## ST72321R6T1
designator U?
8-Bit 32k ROM MCU with Nested Interrupts, 1024b RAM, 10-Bit ADC, Five Timers, SPI, SCI and I²C Interfaces, 64-Pin TQFP; PackageDocument: rev2.4, Jan-2002; Note: Pins 5-12, 25-27 and 43-46 are External Interrupt (EI) pins.; Published: 26-May-2004; DatasheetDocument: rev1.9, Aug-2003; PackageReference: TQFP64-0.8; Publisher: Altium Limited
footprint TQFP64-0.8 (QFP, Thin; 64 Leads; Body 14 x 14 mm; Pitch 0.8 mm)
pins: 1 PE4 (HS) (io), 2 PE5 (HS) (io), 3 PE6 (HS) (io), 4 PE7 (HS) (io), 5 PB0/PWM3 (io), 6 PB1/PWM2 (io), 7 PB2/PWM1 (io), 8 PB3/PWM0 (io), 9 PB4 (HS)/ARTCLK (io), 10 PB5/ARTIC1 (io), 11 PB6/ARTIC2 (io), 12 PB7 (io), 13 PD0/AIN0 (io), 14 PD1/AIN1 (io), 15 PD2/AIN2 (io), 16 PD3/AIN3 (io), 17 PD4/AIN4 (io), 18 PD5/AIN5 (io), 19 PD6/AIN6 (io), 20 PD7/AIN7 (io), 21 VAREF (in), 22 VSSA (power), 23 VDD_3 (power), 24 VSS_3 (power), 25 PF0/AIN8/MCO (io), 26 PF1 (HS)/BEEP (io), 27 PF2 (HS) (io), 28 PF3/AIN9/OCMP2_A (io), 29 PF4/AIN10/OCMP1_A (io), 30 PF5/AIN11/ICAP2_A (io), 31 PF6 (HS)/ICAP1_A (io), 32 PF7 (HS)/EXTCLK_A (io), 33 VDD_0 (power), 34 VSS_0 (power), 35 PC0/OCMP2_B/AIN12 (io), 36 PC1/OCMP1_B/AIN13 (io), 37 PC2 (HS)/ICAP2_B (io), 38 PC3 (HS)/ICAP1_B (io), 39 PC4/MISO/ICCDATA (io), 40 PC5/MOSI/AIN14 (io), 41 PC6/SCK/ICCCLK (io), 42 PC7/~{SS}/AIN15 (io), 43 PA0 (io), 44 PA1 (io), 45 PA2 (io), 46 PA3 (HS) (io), 47 VDD_1 (power), 48 VSS_1 (power), 49 PA4 (HS) (io), 50 PA5 (HS) (io), 51 PA6 (HS)/SDAI (io), 52 PA7 (HS)/SCLI (io), 53 VPP/ICCSEL (in), 54 ~{RESET} (io), 55 EVD, 56 TLI (in), 57 VSS_2 (power), 58 OSC2 (out), 59 OSC1 (in), 60 VDD_2 (power), 61 PE0/TDO (io), 62 PE1/RDI (io), 63 PE2 (io), 64 PE3 (io)

## ST72321R6T3
designator U?
8-Bit 32k ROM MCU with Nested Interrupts, 1024b RAM, 10-Bit ADC, Five Timers, SPI, SCI and I²C Interfaces, 64-Pin TQFP; PackageDocument: rev2.4, Jan-2002; Note: Pins 5-12, 25-27 and 43-46 are External Interrupt (EI) pins.; Published: 26-May-2004; DatasheetDocument: rev1.9, Aug-2003; PackageReference: TQFP64-0.8; Publisher: Altium Limited
footprint TQFP64-0.8 (QFP, Thin; 64 Leads; Body 14 x 14 mm; Pitch 0.8 mm)
pins: 1 PE4 (HS) (io), 2 PE5 (HS) (io), 3 PE6 (HS) (io), 4 PE7 (HS) (io), 5 PB0/PWM3 (io), 6 PB1/PWM2 (io), 7 PB2/PWM1 (io), 8 PB3/PWM0 (io), 9 PB4 (HS)/ARTCLK (io), 10 PB5/ARTIC1 (io), 11 PB6/ARTIC2 (io), 12 PB7 (io), 13 PD0/AIN0 (io), 14 PD1/AIN1 (io), 15 PD2/AIN2 (io), 16 PD3/AIN3 (io), 17 PD4/AIN4 (io), 18 PD5/AIN5 (io), 19 PD6/AIN6 (io), 20 PD7/AIN7 (io), 21 VAREF (in), 22 VSSA (power), 23 VDD_3 (power), 24 VSS_3 (power), 25 PF0/AIN8/MCO (io), 26 PF1 (HS)/BEEP (io), 27 PF2 (HS) (io), 28 PF3/AIN9/OCMP2_A (io), 29 PF4/AIN10/OCMP1_A (io), 30 PF5/AIN11/ICAP2_A (io), 31 PF6 (HS)/ICAP1_A (io), 32 PF7 (HS)/EXTCLK_A (io), 33 VDD_0 (power), 34 VSS_0 (power), 35 PC0/OCMP2_B/AIN12 (io), 36 PC1/OCMP1_B/AIN13 (io), 37 PC2 (HS)/ICAP2_B (io), 38 PC3 (HS)/ICAP1_B (io), 39 PC4/MISO/ICCDATA (io), 40 PC5/MOSI/AIN14 (io), 41 PC6/SCK/ICCCLK (io), 42 PC7/~{SS}/AIN15 (io), 43 PA0 (io), 44 PA1 (io), 45 PA2 (io), 46 PA3 (HS) (io), 47 VDD_1 (power), 48 VSS_1 (power), 49 PA4 (HS) (io), 50 PA5 (HS) (io), 51 PA6 (HS)/SDAI (io), 52 PA7 (HS)/SCLI (io), 53 VPP/ICCSEL (in), 54 ~{RESET} (io), 55 EVD, 56 TLI (in), 57 VSS_2 (power), 58 OSC2 (out), 59 OSC1 (in), 60 VDD_2 (power), 61 PE0/TDO (io), 62 PE1/RDI (io), 63 PE2 (io), 64 PE3 (io)

## ST72321R6T5
designator U?
8-Bit 32k ROM MCU with Nested Interrupts, 1024b RAM, 10-Bit ADC, Five Timers, SPI, SCI and I²C Interfaces, 64-Pin TQFP; PackageDocument: rev2.4, Jan-2002; Note: Pins 5-12, 25-27 and 43-46 are External Interrupt (EI) pins.; Published: 26-May-2004; DatasheetDocument: rev1.9, Aug-2003; PackageReference: TQFP64-0.8; Publisher: Altium Limited
footprint TQFP64-0.8 (QFP, Thin; 64 Leads; Body 14 x 14 mm; Pitch 0.8 mm)
pins: 1 PE4 (HS) (io), 2 PE5 (HS) (io), 3 PE6 (HS) (io), 4 PE7 (HS) (io), 5 PB0/PWM3 (io), 6 PB1/PWM2 (io), 7 PB2/PWM1 (io), 8 PB3/PWM0 (io), 9 PB4 (HS)/ARTCLK (io), 10 PB5/ARTIC1 (io), 11 PB6/ARTIC2 (io), 12 PB7 (io), 13 PD0/AIN0 (io), 14 PD1/AIN1 (io), 15 PD2/AIN2 (io), 16 PD3/AIN3 (io), 17 PD4/AIN4 (io), 18 PD5/AIN5 (io), 19 PD6/AIN6 (io), 20 PD7/AIN7 (io), 21 VAREF (in), 22 VSSA (power), 23 VDD_3 (power), 24 VSS_3 (power), 25 PF0/AIN8/MCO (io), 26 PF1 (HS)/BEEP (io), 27 PF2 (HS) (io), 28 PF3/AIN9/OCMP2_A (io), 29 PF4/AIN10/OCMP1_A (io), 30 PF5/AIN11/ICAP2_A (io), 31 PF6 (HS)/ICAP1_A (io), 32 PF7 (HS)/EXTCLK_A (io), 33 VDD_0 (power), 34 VSS_0 (power), 35 PC0/OCMP2_B/AIN12 (io), 36 PC1/OCMP1_B/AIN13 (io), 37 PC2 (HS)/ICAP2_B (io), 38 PC3 (HS)/ICAP1_B (io), 39 PC4/MISO/ICCDATA (io), 40 PC5/MOSI/AIN14 (io), 41 PC6/SCK/ICCCLK (io), 42 PC7/~{SS}/AIN15 (io), 43 PA0 (io), 44 PA1 (io), 45 PA2 (io), 46 PA3 (HS) (io), 47 VDD_1 (power), 48 VSS_1 (power), 49 PA4 (HS) (io), 50 PA5 (HS) (io), 51 PA6 (HS)/SDAI (io), 52 PA7 (HS)/SCLI (io), 53 VPP/ICCSEL (in), 54 ~{RESET} (io), 55 EVD, 56 TLI (in), 57 VSS_2 (power), 58 OSC2 (out), 59 OSC1 (in), 60 VDD_2 (power), 61 PE0/TDO (io), 62 PE1/RDI (io), 63 PE2 (io), 64 PE3 (io)

## ST72321R6TC
designator U?
8-Bit 32k ROM MCU with Nested Interrupts, 1024b RAM, 10-Bit ADC, Five Timers, SPI, SCI and I²C Interfaces, 64-Pin TQFP; PackageDocument: rev2.4, Jan-2002; Note: Pins 5-12, 25-27 and 43-46 are External Interrupt (EI) pins.; Published: 26-May-2004; DatasheetDocument: rev1.9, Aug-2003; PackageReference: TQFP64-0.8; Publisher: Altium Limited
footprint TQFP64-0.8 (QFP, Thin; 64 Leads; Body 14 x 14 mm; Pitch 0.8 mm)
pins: 1 PE4 (HS) (io), 2 PE5 (HS) (io), 3 PE6 (HS) (io), 4 PE7 (HS) (io), 5 PB0/PWM3 (io), 6 PB1/PWM2 (io), 7 PB2/PWM1 (io), 8 PB3/PWM0 (io), 9 PB4 (HS)/ARTCLK (io), 10 PB5/ARTIC1 (io), 11 PB6/ARTIC2 (io), 12 PB7 (io), 13 PD0/AIN0 (io), 14 PD1/AIN1 (io), 15 PD2/AIN2 (io), 16 PD3/AIN3 (io), 17 PD4/AIN4 (io), 18 PD5/AIN5 (io), 19 PD6/AIN6 (io), 20 PD7/AIN7 (io), 21 VAREF (in), 22 VSSA (power), 23 VDD_3 (power), 24 VSS_3 (power), 25 PF0/AIN8/MCO (io), 26 PF1 (HS)/BEEP (io), 27 PF2 (HS) (io), 28 PF3/AIN9/OCMP2_A (io), 29 PF4/AIN10/OCMP1_A (io), 30 PF5/AIN11/ICAP2_A (io), 31 PF6 (HS)/ICAP1_A (io), 32 PF7 (HS)/EXTCLK_A (io), 33 VDD_0 (power), 34 VSS_0 (power), 35 PC0/OCMP2_B/AIN12 (io), 36 PC1/OCMP1_B/AIN13 (io), 37 PC2 (HS)/ICAP2_B (io), 38 PC3 (HS)/ICAP1_B (io), 39 PC4/MISO/ICCDATA (io), 40 PC5/MOSI/AIN14 (io), 41 PC6/SCK/ICCCLK (io), 42 PC7/~{SS}/AIN15 (io), 43 PA0 (io), 44 PA1 (io), 45 PA2 (io), 46 PA3 (HS) (io), 47 VDD_1 (power), 48 VSS_1 (power), 49 PA4 (HS) (io), 50 PA5 (HS) (io), 51 PA6 (HS)/SDAI (io), 52 PA7 (HS)/SCLI (io), 53 VPP/ICCSEL (in), 54 ~{RESET} (io), 55 EVD, 56 TLI (in), 57 VSS_2 (power), 58 OSC2 (out), 59 OSC1 (in), 60 VDD_2 (power), 61 PE0/TDO (io), 62 PE1/RDI (io), 63 PE2 (io), 64 PE3 (io)

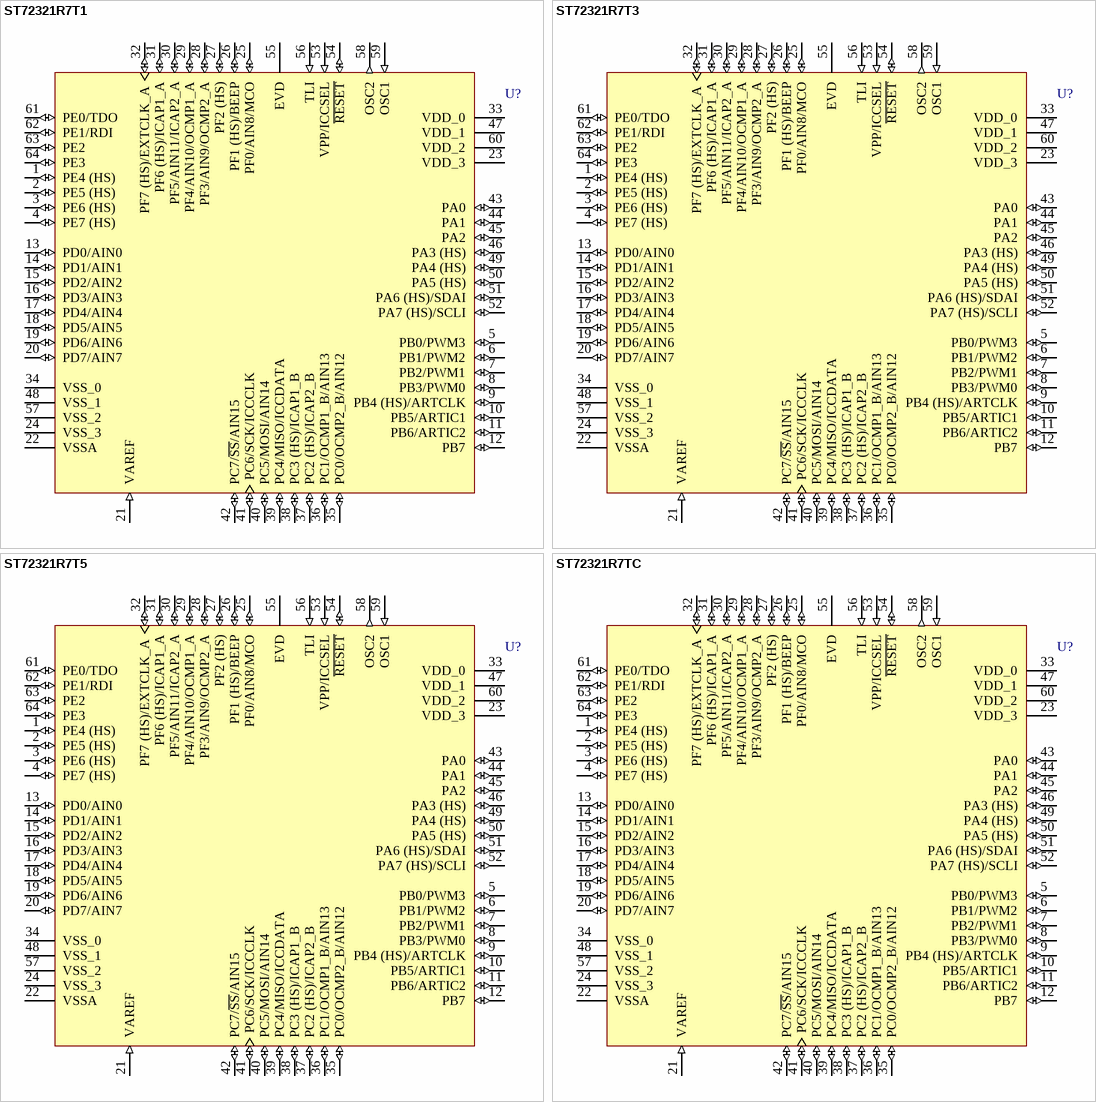
[diagram p125: symbols ST72321R7T1 to ST72321R7TC]

## ST72321R7T1
designator U?
8-Bit 48k ROM MCU with Nested Interrupts, 1536b RAM, 10-Bit ADC, Five Timers, SPI, SCI and I²C Interfaces, 64-Pin TQFP; PackageDocument: rev2.4, Jan-2002; Note: Pins 5-12, 25-27 and 43-46 are External Interrupt (EI) pins.; Published: 26-May-2004; DatasheetDocument: rev1.9, Aug-2003; PackageReference: TQFP64-0.8; Publisher: Altium Limited
footprint TQFP64-0.8 (QFP, Thin; 64 Leads; Body 14 x 14 mm; Pitch 0.8 mm)
pins: 1 PE4 (HS) (io), 2 PE5 (HS) (io), 3 PE6 (HS) (io), 4 PE7 (HS) (io), 5 PB0/PWM3 (io), 6 PB1/PWM2 (io), 7 PB2/PWM1 (io), 8 PB3/PWM0 (io), 9 PB4 (HS)/ARTCLK (io), 10 PB5/ARTIC1 (io), 11 PB6/ARTIC2 (io), 12 PB7 (io), 13 PD0/AIN0 (io), 14 PD1/AIN1 (io), 15 PD2/AIN2 (io), 16 PD3/AIN3 (io), 17 PD4/AIN4 (io), 18 PD5/AIN5 (io), 19 PD6/AIN6 (io), 20 PD7/AIN7 (io), 21 VAREF (in), 22 VSSA (power), 23 VDD_3 (power), 24 VSS_3 (power), 25 PF0/AIN8/MCO (io), 26 PF1 (HS)/BEEP (io), 27 PF2 (HS) (io), 28 PF3/AIN9/OCMP2_A (io), 29 PF4/AIN10/OCMP1_A (io), 30 PF5/AIN11/ICAP2_A (io), 31 PF6 (HS)/ICAP1_A (io), 32 PF7 (HS)/EXTCLK_A (io), 33 VDD_0 (power), 34 VSS_0 (power), 35 PC0/OCMP2_B/AIN12 (io), 36 PC1/OCMP1_B/AIN13 (io), 37 PC2 (HS)/ICAP2_B (io), 38 PC3 (HS)/ICAP1_B (io), 39 PC4/MISO/ICCDATA (io), 40 PC5/MOSI/AIN14 (io), 41 PC6/SCK/ICCCLK (io), 42 PC7/~{SS}/AIN15 (io), 43 PA0 (io), 44 PA1 (io), 45 PA2 (io), 46 PA3 (HS) (io), 47 VDD_1 (power), 48 VSS_1 (power), 49 PA4 (HS) (io), 50 PA5 (HS) (io), 51 PA6 (HS)/SDAI (io), 52 PA7 (HS)/SCLI (io), 53 VPP/ICCSEL (in), 54 ~{RESET} (io), 55 EVD, 56 TLI (in), 57 VSS_2 (power), 58 OSC2 (out), 59 OSC1 (in), 60 VDD_2 (power), 61 PE0/TDO (io), 62 PE1/RDI (io), 63 PE2 (io), 64 PE3 (io)

## ST72321R7T3
designator U?
8-Bit 48k ROM MCU with Nested Interrupts, 1536b RAM, 10-Bit ADC, Five Timers, SPI, SCI and I²C Interfaces, 64-Pin TQFP; PackageDocument: rev2.4, Jan-2002; Note: Pins 5-12, 25-27 and 43-46 are External Interrupt (EI) pins.; Published: 26-May-2004; DatasheetDocument: rev1.9, Aug-2003; PackageReference: TQFP64-0.8; Publisher: Altium Limited
footprint TQFP64-0.8 (QFP, Thin; 64 Leads; Body 14 x 14 mm; Pitch 0.8 mm)
pins: 1 PE4 (HS) (io), 2 PE5 (HS) (io), 3 PE6 (HS) (io), 4 PE7 (HS) (io), 5 PB0/PWM3 (io), 6 PB1/PWM2 (io), 7 PB2/PWM1 (io), 8 PB3/PWM0 (io), 9 PB4 (HS)/ARTCLK (io), 10 PB5/ARTIC1 (io), 11 PB6/ARTIC2 (io), 12 PB7 (io), 13 PD0/AIN0 (io), 14 PD1/AIN1 (io), 15 PD2/AIN2 (io), 16 PD3/AIN3 (io), 17 PD4/AIN4 (io), 18 PD5/AIN5 (io), 19 PD6/AIN6 (io), 20 PD7/AIN7 (io), 21 VAREF (in), 22 VSSA (power), 23 VDD_3 (power), 24 VSS_3 (power), 25 PF0/AIN8/MCO (io), 26 PF1 (HS)/BEEP (io), 27 PF2 (HS) (io), 28 PF3/AIN9/OCMP2_A (io), 29 PF4/AIN10/OCMP1_A (io), 30 PF5/AIN11/ICAP2_A (io), 31 PF6 (HS)/ICAP1_A (io), 32 PF7 (HS)/EXTCLK_A (io), 33 VDD_0 (power), 34 VSS_0 (power), 35 PC0/OCMP2_B/AIN12 (io), 36 PC1/OCMP1_B/AIN13 (io), 37 PC2 (HS)/ICAP2_B (io), 38 PC3 (HS)/ICAP1_B (io), 39 PC4/MISO/ICCDATA (io), 40 PC5/MOSI/AIN14 (io), 41 PC6/SCK/ICCCLK (io), 42 PC7/~{SS}/AIN15 (io), 43 PA0 (io), 44 PA1 (io), 45 PA2 (io), 46 PA3 (HS) (io), 47 VDD_1 (power), 48 VSS_1 (power), 49 PA4 (HS) (io), 50 PA5 (HS) (io), 51 PA6 (HS)/SDAI (io), 52 PA7 (HS)/SCLI (io), 53 VPP/ICCSEL (in), 54 ~{RESET} (io), 55 EVD, 56 TLI (in), 57 VSS_2 (power), 58 OSC2 (out), 59 OSC1 (in), 60 VDD_2 (power), 61 PE0/TDO (io), 62 PE1/RDI (io), 63 PE2 (io), 64 PE3 (io)

## ST72321R7T5
designator U?
8-Bit 48k ROM MCU with Nested Interrupts, 1536b RAM, 10-Bit ADC, Five Timers, SPI, SCI and I²C Interfaces, 64-Pin TQFP; PackageDocument: rev2.4, Jan-2002; Note: Pins 5-12, 25-27 and 43-46 are External Interrupt (EI) pins.; Published: 26-May-2004; DatasheetDocument: rev1.9, Aug-2003; PackageReference: TQFP64-0.8; Publisher: Altium Limited
footprint TQFP64-0.8 (QFP, Thin; 64 Leads; Body 14 x 14 mm; Pitch 0.8 mm)
pins: 1 PE4 (HS) (io), 2 PE5 (HS) (io), 3 PE6 (HS) (io), 4 PE7 (HS) (io), 5 PB0/PWM3 (io), 6 PB1/PWM2 (io), 7 PB2/PWM1 (io), 8 PB3/PWM0 (io), 9 PB4 (HS)/ARTCLK (io), 10 PB5/ARTIC1 (io), 11 PB6/ARTIC2 (io), 12 PB7 (io), 13 PD0/AIN0 (io), 14 PD1/AIN1 (io), 15 PD2/AIN2 (io), 16 PD3/AIN3 (io), 17 PD4/AIN4 (io), 18 PD5/AIN5 (io), 19 PD6/AIN6 (io), 20 PD7/AIN7 (io), 21 VAREF (in), 22 VSSA (power), 23 VDD_3 (power), 24 VSS_3 (power), 25 PF0/AIN8/MCO (io), 26 PF1 (HS)/BEEP (io), 27 PF2 (HS) (io), 28 PF3/AIN9/OCMP2_A (io), 29 PF4/AIN10/OCMP1_A (io), 30 PF5/AIN11/ICAP2_A (io), 31 PF6 (HS)/ICAP1_A (io), 32 PF7 (HS)/EXTCLK_A (io), 33 VDD_0 (power), 34 VSS_0 (power), 35 PC0/OCMP2_B/AIN12 (io), 36 PC1/OCMP1_B/AIN13 (io), 37 PC2 (HS)/ICAP2_B (io), 38 PC3 (HS)/ICAP1_B (io), 39 PC4/MISO/ICCDATA (io), 40 PC5/MOSI/AIN14 (io), 41 PC6/SCK/ICCCLK (io), 42 PC7/~{SS}/AIN15 (io), 43 PA0 (io), 44 PA1 (io), 45 PA2 (io), 46 PA3 (HS) (io), 47 VDD_1 (power), 48 VSS_1 (power), 49 PA4 (HS) (io), 50 PA5 (HS) (io), 51 PA6 (HS)/SDAI (io), 52 PA7 (HS)/SCLI (io), 53 VPP/ICCSEL (in), 54 ~{RESET} (io), 55 EVD, 56 TLI (in), 57 VSS_2 (power), 58 OSC2 (out), 59 OSC1 (in), 60 VDD_2 (power), 61 PE0/TDO (io), 62 PE1/RDI (io), 63 PE2 (io), 64 PE3 (io)

## ST72321R7TC
designator U?
8-Bit 48k ROM MCU with Nested Interrupts, 1536b RAM, 10-Bit ADC, Five Timers, SPI, SCI and I²C Interfaces, 64-Pin TQFP; PackageDocument: rev2.4, Jan-2002; Note: Pins 5-12, 25-27 and 43-46 are External Interrupt (EI) pins.; Published: 26-May-2004; DatasheetDocument: rev1.9, Aug-2003; PackageReference: TQFP64-0.8; Publisher: Altium Limited
footprint TQFP64-0.8 (QFP, Thin; 64 Leads; Body 14 x 14 mm; Pitch 0.8 mm)
pins: 1 PE4 (HS) (io), 2 PE5 (HS) (io), 3 PE6 (HS) (io), 4 PE7 (HS) (io), 5 PB0/PWM3 (io), 6 PB1/PWM2 (io), 7 PB2/PWM1 (io), 8 PB3/PWM0 (io), 9 PB4 (HS)/ARTCLK (io), 10 PB5/ARTIC1 (io), 11 PB6/ARTIC2 (io), 12 PB7 (io), 13 PD0/AIN0 (io), 14 PD1/AIN1 (io), 15 PD2/AIN2 (io), 16 PD3/AIN3 (io), 17 PD4/AIN4 (io), 18 PD5/AIN5 (io), 19 PD6/AIN6 (io), 20 PD7/AIN7 (io), 21 VAREF (in), 22 VSSA (power), 23 VDD_3 (power), 24 VSS_3 (power), 25 PF0/AIN8/MCO (io), 26 PF1 (HS)/BEEP (io), 27 PF2 (HS) (io), 28 PF3/AIN9/OCMP2_A (io), 29 PF4/AIN10/OCMP1_A (io), 30 PF5/AIN11/ICAP2_A (io), 31 PF6 (HS)/ICAP1_A (io), 32 PF7 (HS)/EXTCLK_A (io), 33 VDD_0 (power), 34 VSS_0 (power), 35 PC0/OCMP2_B/AIN12 (io), 36 PC1/OCMP1_B/AIN13 (io), 37 PC2 (HS)/ICAP2_B (io), 38 PC3 (HS)/ICAP1_B (io), 39 PC4/MISO/ICCDATA (io), 40 PC5/MOSI/AIN14 (io), 41 PC6/SCK/ICCCLK (io), 42 PC7/~{SS}/AIN15 (io), 43 PA0 (io), 44 PA1 (io), 45 PA2 (io), 46 PA3 (HS) (io), 47 VDD_1 (power), 48 VSS_1 (power), 49 PA4 (HS) (io), 50 PA5 (HS) (io), 51 PA6 (HS)/SDAI (io), 52 PA7 (HS)/SCLI (io), 53 VPP/ICCSEL (in), 54 ~{RESET} (io), 55 EVD, 56 TLI (in), 57 VSS_2 (power), 58 OSC2 (out), 59 OSC1 (in), 60 VDD_2 (power), 61 PE0/TDO (io), 62 PE1/RDI (io), 63 PE2 (io), 64 PE3 (io)

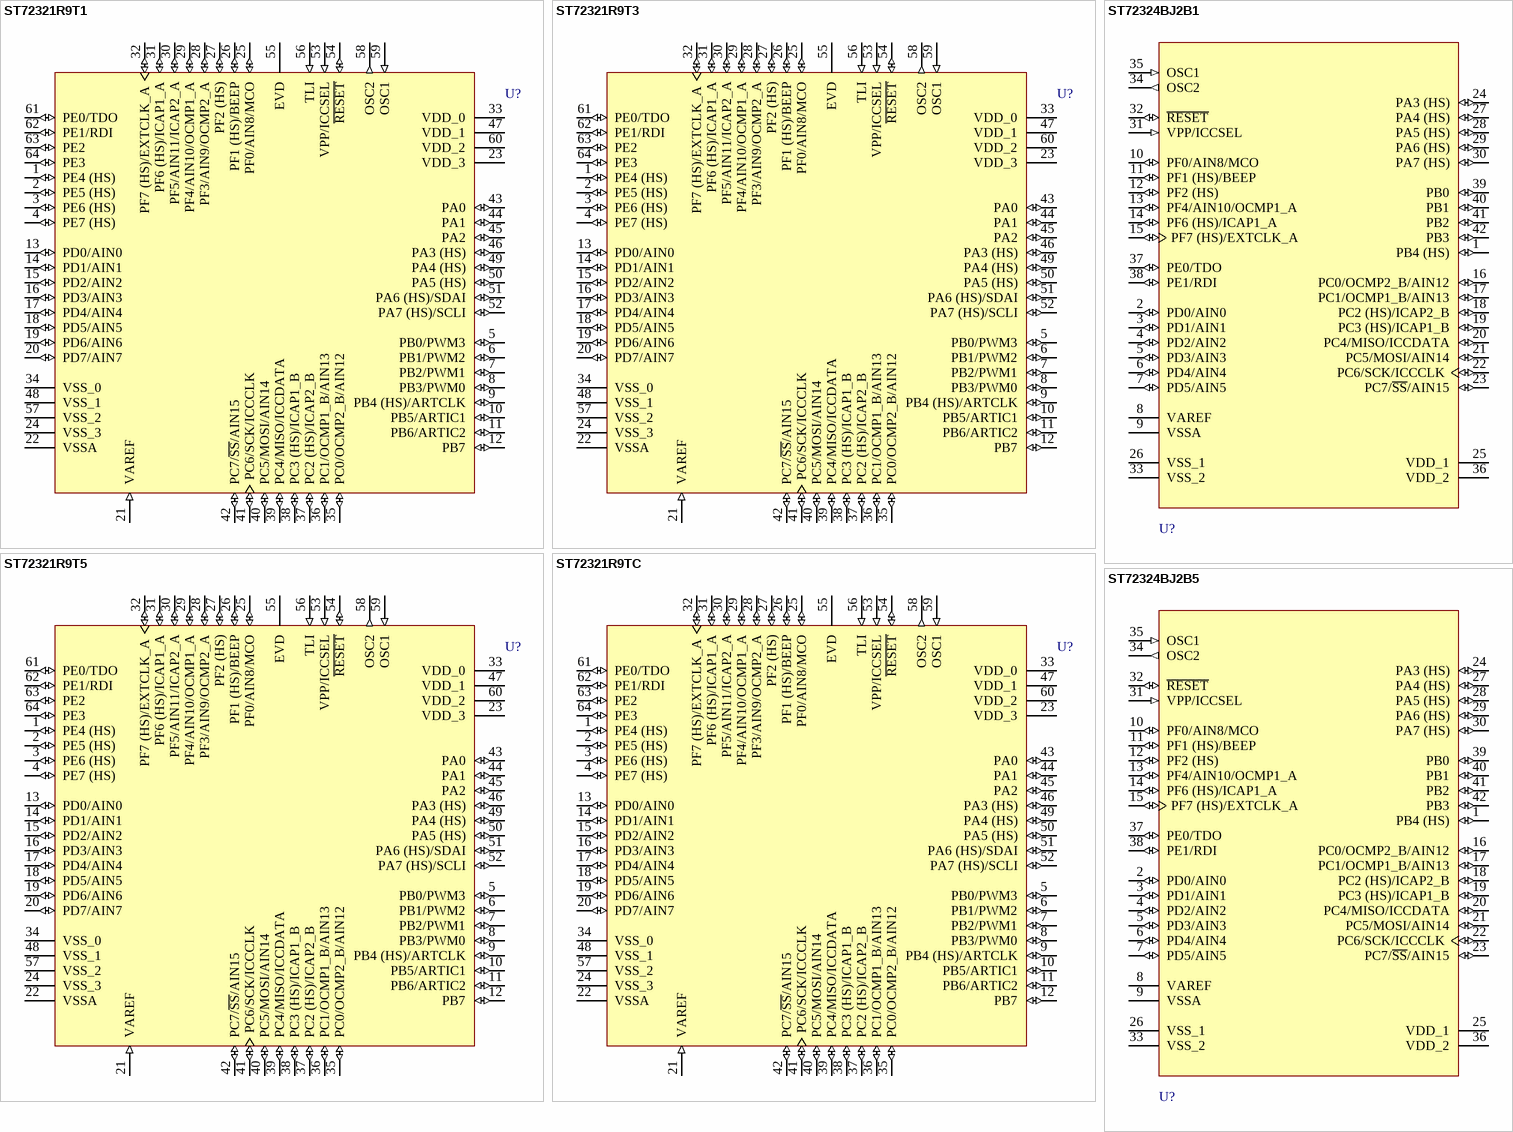
[diagram p126: symbols ST72321R9T1 to ST72324BJ2B5]

## ST72321R9T1
designator U?
8-Bit 60k ROM MCU with Nested Interrupts, 2048b RAM, 10-Bit ADC, Five Timers, SPI, SCI and I²C Interfaces, 64-Pin TQFP; PackageDocument: rev2.4, Jan-2002; Note: Pins 5-12, 25-27 and 43-46 are External Interrupt (EI) pins.; Published: 26-May-2004; DatasheetDocument: rev1.9, Aug-2003; PackageReference: TQFP64-0.8; Publisher: Altium Limited
footprint TQFP64-0.8 (QFP, Thin; 64 Leads; Body 14 x 14 mm; Pitch 0.8 mm)
pins: 1 PE4 (HS) (io), 2 PE5 (HS) (io), 3 PE6 (HS) (io), 4 PE7 (HS) (io), 5 PB0/PWM3 (io), 6 PB1/PWM2 (io), 7 PB2/PWM1 (io), 8 PB3/PWM0 (io), 9 PB4 (HS)/ARTCLK (io), 10 PB5/ARTIC1 (io), 11 PB6/ARTIC2 (io), 12 PB7 (io), 13 PD0/AIN0 (io), 14 PD1/AIN1 (io), 15 PD2/AIN2 (io), 16 PD3/AIN3 (io), 17 PD4/AIN4 (io), 18 PD5/AIN5 (io), 19 PD6/AIN6 (io), 20 PD7/AIN7 (io), 21 VAREF (in), 22 VSSA (power), 23 VDD_3 (power), 24 VSS_3 (power), 25 PF0/AIN8/MCO (io), 26 PF1 (HS)/BEEP (io), 27 PF2 (HS) (io), 28 PF3/AIN9/OCMP2_A (io), 29 PF4/AIN10/OCMP1_A (io), 30 PF5/AIN11/ICAP2_A (io), 31 PF6 (HS)/ICAP1_A (io), 32 PF7 (HS)/EXTCLK_A (io), 33 VDD_0 (power), 34 VSS_0 (power), 35 PC0/OCMP2_B/AIN12 (io), 36 PC1/OCMP1_B/AIN13 (io), 37 PC2 (HS)/ICAP2_B (io), 38 PC3 (HS)/ICAP1_B (io), 39 PC4/MISO/ICCDATA (io), 40 PC5/MOSI/AIN14 (io), 41 PC6/SCK/ICCCLK (io), 42 PC7/~{SS}/AIN15 (io), 43 PA0 (io), 44 PA1 (io), 45 PA2 (io), 46 PA3 (HS) (io), 47 VDD_1 (power), 48 VSS_1 (power), 49 PA4 (HS) (io), 50 PA5 (HS) (io), 51 PA6 (HS)/SDAI (io), 52 PA7 (HS)/SCLI (io), 53 VPP/ICCSEL (in), 54 ~{RESET} (io), 55 EVD, 56 TLI (in), 57 VSS_2 (power), 58 OSC2 (out), 59 OSC1 (in), 60 VDD_2 (power), 61 PE0/TDO (io), 62 PE1/RDI (io), 63 PE2 (io), 64 PE3 (io)

## ST72321R9T3
designator U?
8-Bit 60k ROM MCU with Nested Interrupts, 2048b RAM, 10-Bit ADC, Five Timers, SPI, SCI and I²C Interfaces, 64-Pin TQFP; PackageDocument: rev2.4, Jan-2002; Note: Pins 5-12, 25-27 and 43-46 are External Interrupt (EI) pins.; Published: 26-May-2004; DatasheetDocument: rev1.9, Aug-2003; PackageReference: TQFP64-0.8; Publisher: Altium Limited
footprint TQFP64-0.8 (QFP, Thin; 64 Leads; Body 14 x 14 mm; Pitch 0.8 mm)
pins: 1 PE4 (HS) (io), 2 PE5 (HS) (io), 3 PE6 (HS) (io), 4 PE7 (HS) (io), 5 PB0/PWM3 (io), 6 PB1/PWM2 (io), 7 PB2/PWM1 (io), 8 PB3/PWM0 (io), 9 PB4 (HS)/ARTCLK (io), 10 PB5/ARTIC1 (io), 11 PB6/ARTIC2 (io), 12 PB7 (io), 13 PD0/AIN0 (io), 14 PD1/AIN1 (io), 15 PD2/AIN2 (io), 16 PD3/AIN3 (io), 17 PD4/AIN4 (io), 18 PD5/AIN5 (io), 19 PD6/AIN6 (io), 20 PD7/AIN7 (io), 21 VAREF (in), 22 VSSA (power), 23 VDD_3 (power), 24 VSS_3 (power), 25 PF0/AIN8/MCO (io), 26 PF1 (HS)/BEEP (io), 27 PF2 (HS) (io), 28 PF3/AIN9/OCMP2_A (io), 29 PF4/AIN10/OCMP1_A (io), 30 PF5/AIN11/ICAP2_A (io), 31 PF6 (HS)/ICAP1_A (io), 32 PF7 (HS)/EXTCLK_A (io), 33 VDD_0 (power), 34 VSS_0 (power), 35 PC0/OCMP2_B/AIN12 (io), 36 PC1/OCMP1_B/AIN13 (io), 37 PC2 (HS)/ICAP2_B (io), 38 PC3 (HS)/ICAP1_B (io), 39 PC4/MISO/ICCDATA (io), 40 PC5/MOSI/AIN14 (io), 41 PC6/SCK/ICCCLK (io), 42 PC7/~{SS}/AIN15 (io), 43 PA0 (io), 44 PA1 (io), 45 PA2 (io), 46 PA3 (HS) (io), 47 VDD_1 (power), 48 VSS_1 (power), 49 PA4 (HS) (io), 50 PA5 (HS) (io), 51 PA6 (HS)/SDAI (io), 52 PA7 (HS)/SCLI (io), 53 VPP/ICCSEL (in), 54 ~{RESET} (io), 55 EVD, 56 TLI (in), 57 VSS_2 (power), 58 OSC2 (out), 59 OSC1 (in), 60 VDD_2 (power), 61 PE0/TDO (io), 62 PE1/RDI (io), 63 PE2 (io), 64 PE3 (io)

## ST72321R9T5
designator U?
8-Bit 60k ROM MCU with Nested Interrupts, 2048b RAM, 10-Bit ADC, Five Timers, SPI, SCI and I²C Interfaces, 64-Pin TQFP; PackageDocument: rev2.4, Jan-2002; Note: Pins 5-12, 25-27 and 43-46 are External Interrupt (EI) pins.; Published: 26-May-2004; DatasheetDocument: rev1.9, Aug-2003; PackageReference: TQFP64-0.8; Publisher: Altium Limited
footprint TQFP64-0.8 (QFP, Thin; 64 Leads; Body 14 x 14 mm; Pitch 0.8 mm)
pins: 1 PE4 (HS) (io), 2 PE5 (HS) (io), 3 PE6 (HS) (io), 4 PE7 (HS) (io), 5 PB0/PWM3 (io), 6 PB1/PWM2 (io), 7 PB2/PWM1 (io), 8 PB3/PWM0 (io), 9 PB4 (HS)/ARTCLK (io), 10 PB5/ARTIC1 (io), 11 PB6/ARTIC2 (io), 12 PB7 (io), 13 PD0/AIN0 (io), 14 PD1/AIN1 (io), 15 PD2/AIN2 (io), 16 PD3/AIN3 (io), 17 PD4/AIN4 (io), 18 PD5/AIN5 (io), 19 PD6/AIN6 (io), 20 PD7/AIN7 (io), 21 VAREF (in), 22 VSSA (power), 23 VDD_3 (power), 24 VSS_3 (power), 25 PF0/AIN8/MCO (io), 26 PF1 (HS)/BEEP (io), 27 PF2 (HS) (io), 28 PF3/AIN9/OCMP2_A (io), 29 PF4/AIN10/OCMP1_A (io), 30 PF5/AIN11/ICAP2_A (io), 31 PF6 (HS)/ICAP1_A (io), 32 PF7 (HS)/EXTCLK_A (io), 33 VDD_0 (power), 34 VSS_0 (power), 35 PC0/OCMP2_B/AIN12 (io), 36 PC1/OCMP1_B/AIN13 (io), 37 PC2 (HS)/ICAP2_B (io), 38 PC3 (HS)/ICAP1_B (io), 39 PC4/MISO/ICCDATA (io), 40 PC5/MOSI/AIN14 (io), 41 PC6/SCK/ICCCLK (io), 42 PC7/~{SS}/AIN15 (io), 43 PA0 (io), 44 PA1 (io), 45 PA2 (io), 46 PA3 (HS) (io), 47 VDD_1 (power), 48 VSS_1 (power), 49 PA4 (HS) (io), 50 PA5 (HS) (io), 51 PA6 (HS)/SDAI (io), 52 PA7 (HS)/SCLI (io), 53 VPP/ICCSEL (in), 54 ~{RESET} (io), 55 EVD, 56 TLI (in), 57 VSS_2 (power), 58 OSC2 (out), 59 OSC1 (in), 60 VDD_2 (power), 61 PE0/TDO (io), 62 PE1/RDI (io), 63 PE2 (io), 64 PE3 (io)

## ST72321R9TC
designator U?
8-Bit 60k ROM MCU with Nested Interrupts, 2048b RAM, 10-Bit ADC, Five Timers, SPI, SCI and I²C Interfaces, 64-Pin TQFP; PackageDocument: rev2.4, Jan-2002; Note: Pins 5-12, 25-27 and 43-46 are External Interrupt (EI) pins.; Published: 26-May-2004; DatasheetDocument: rev1.9, Aug-2003; PackageReference: TQFP64-0.8; Publisher: Altium Limited
footprint TQFP64-0.8 (QFP, Thin; 64 Leads; Body 14 x 14 mm; Pitch 0.8 mm)
pins: 1 PE4 (HS) (io), 2 PE5 (HS) (io), 3 PE6 (HS) (io), 4 PE7 (HS) (io), 5 PB0/PWM3 (io), 6 PB1/PWM2 (io), 7 PB2/PWM1 (io), 8 PB3/PWM0 (io), 9 PB4 (HS)/ARTCLK (io), 10 PB5/ARTIC1 (io), 11 PB6/ARTIC2 (io), 12 PB7 (io), 13 PD0/AIN0 (io), 14 PD1/AIN1 (io), 15 PD2/AIN2 (io), 16 PD3/AIN3 (io), 17 PD4/AIN4 (io), 18 PD5/AIN5 (io), 19 PD6/AIN6 (io), 20 PD7/AIN7 (io), 21 VAREF (in), 22 VSSA (power), 23 VDD_3 (power), 24 VSS_3 (power), 25 PF0/AIN8/MCO (io), 26 PF1 (HS)/BEEP (io), 27 PF2 (HS) (io), 28 PF3/AIN9/OCMP2_A (io), 29 PF4/AIN10/OCMP1_A (io), 30 PF5/AIN11/ICAP2_A (io), 31 PF6 (HS)/ICAP1_A (io), 32 PF7 (HS)/EXTCLK_A (io), 33 VDD_0 (power), 34 VSS_0 (power), 35 PC0/OCMP2_B/AIN12 (io), 36 PC1/OCMP1_B/AIN13 (io), 37 PC2 (HS)/ICAP2_B (io), 38 PC3 (HS)/ICAP1_B (io), 39 PC4/MISO/ICCDATA (io), 40 PC5/MOSI/AIN14 (io), 41 PC6/SCK/ICCCLK (io), 42 PC7/~{SS}/AIN15 (io), 43 PA0 (io), 44 PA1 (io), 45 PA2 (io), 46 PA3 (HS) (io), 47 VDD_1 (power), 48 VSS_1 (power), 49 PA4 (HS) (io), 50 PA5 (HS) (io), 51 PA6 (HS)/SDAI (io), 52 PA7 (HS)/SCLI (io), 53 VPP/ICCSEL (in), 54 ~{RESET} (io), 55 EVD, 56 TLI (in), 57 VSS_2 (power), 58 OSC2 (out), 59 OSC1 (in), 60 VDD_2 (power), 61 PE0/TDO (io), 62 PE1/RDI (io), 63 PE2 (io), 64 PE3 (io)

## ST72324BJ2B1
designator U?
8-Bit MCU with 8k ROM, 384b RAM, 10-Bit ADC, Four Timers, SPI and SCI Interface, 42-Pin PDIP, Standard; Note: Pins 1, 10-12, 24 and 39-42 are External Interrupt (EI) pins.; Published: 26-May-2004; DatasheetDocument: rev1.1, Oct-2003; PackageDocument: Oct-2003; PackageReference: PSDIP42; Publisher: Altium Limited
footprint PSDIP42 (DIP, Plastic Shrink; 42 Leads; Row Spacing 15.24 mm; Pitch 1.78 mm)
pins: 1 PB4 (HS) (io), 2 PD0/AIN0 (io), 3 PD1/AIN1 (io), 4 PD2/AIN2 (io), 5 PD3/AIN3 (io), 6 PD4/AIN4 (io), 7 PD5/AIN5 (io), 8 VAREF (power), 9 VSSA (power), 10 PF0/AIN8/MCO (io), 11 PF1 (HS)/BEEP (io), 12 PF2 (HS) (io), 13 PF4/AIN10/OCMP1_A (io), 14 PF6 (HS)/ICAP1_A (io), 15 PF7 (HS)/EXTCLK_A (io), 16 PC0/OCMP2_B/AIN12 (io), 17 PC1/OCMP1_B/AIN13 (io), 18 PC2 (HS)/ICAP2_B (io), 19 PC3 (HS)/ICAP1_B (io), 20 PC4/MISO/ICCDATA (io), 21 PC5/MOSI/AIN14 (io), 22 PC6/SCK/ICCCLK (io), 23 PC7/~{SS}/AIN15 (io), 24 PA3 (HS) (io), 25 VDD_1 (power), 26 VSS_1 (power), 27 PA4 (HS) (io), 28 PA5 (HS) (io), 29 PA6 (HS) (io), 30 PA7 (HS) (io), 31 VPP/ICCSEL (in), 32 ~{RESET} (io), 33 VSS_2 (power), 34 OSC2 (out), 35 OSC1 (in), 36 VDD_2 (power), 37 PE0/TDO (io), 38 PE1/RDI (io), 39 PB0 (io), 40 PB1 (io), 41 PB2 (io), 42 PB3 (io)

## ST72324BJ2B5
designator U?
8-Bit MCU with 8k ROM, 384b RAM, 10-Bit ADC, Four Timers, SPI and SCI Interface, 42-Pin PDIP, Standard; Note: Pins 1, 10-12, 24 and 39-42 are External Interrupt (EI) pins.; Published: 26-May-2004; DatasheetDocument: rev1.1, Oct-2003; PackageDocument: Oct-2003; PackageReference: PSDIP42; Publisher: Altium Limited
footprint PSDIP42 (DIP, Plastic Shrink; 42 Leads; Row Spacing 15.24 mm; Pitch 1.78 mm)
pins: 1 PB4 (HS) (io), 2 PD0/AIN0 (io), 3 PD1/AIN1 (io), 4 PD2/AIN2 (io), 5 PD3/AIN3 (io), 6 PD4/AIN4 (io), 7 PD5/AIN5 (io), 8 VAREF (power), 9 VSSA (power), 10 PF0/AIN8/MCO (io), 11 PF1 (HS)/BEEP (io), 12 PF2 (HS) (io), 13 PF4/AIN10/OCMP1_A (io), 14 PF6 (HS)/ICAP1_A (io), 15 PF7 (HS)/EXTCLK_A (io), 16 PC0/OCMP2_B/AIN12 (io), 17 PC1/OCMP1_B/AIN13 (io), 18 PC2 (HS)/ICAP2_B (io), 19 PC3 (HS)/ICAP1_B (io), 20 PC4/MISO/ICCDATA (io), 21 PC5/MOSI/AIN14 (io), 22 PC6/SCK/ICCCLK (io), 23 PC7/~{SS}/AIN15 (io), 24 PA3 (HS) (io), 25 VDD_1 (power), 26 VSS_1 (power), 27 PA4 (HS) (io), 28 PA5 (HS) (io), 29 PA6 (HS) (io), 30 PA7 (HS) (io), 31 VPP/ICCSEL (in), 32 ~{RESET} (io), 33 VSS_2 (power), 34 OSC2 (out), 35 OSC1 (in), 36 VDD_2 (power), 37 PE0/TDO (io), 38 PE1/RDI (io), 39 PB0 (io), 40 PB1 (io), 41 PB2 (io), 42 PB3 (io)

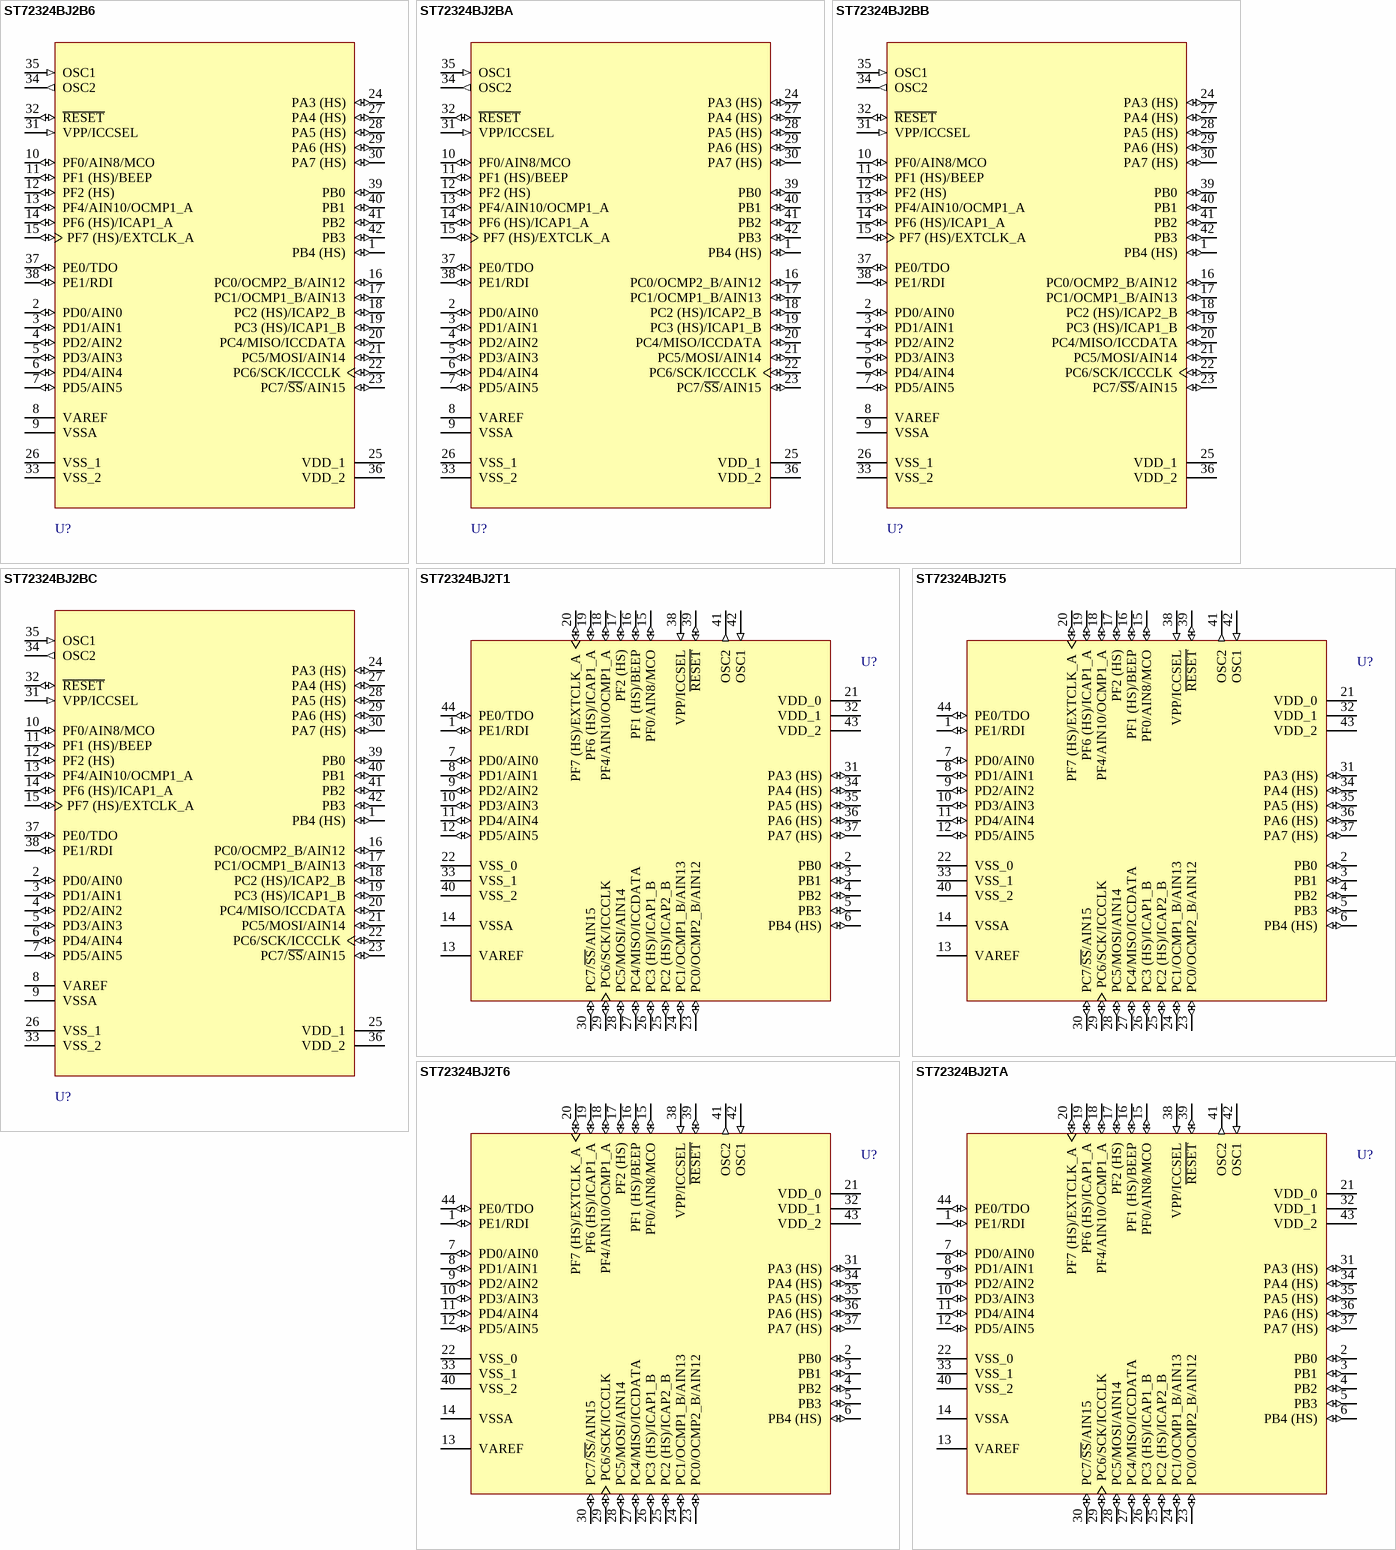
[diagram p127: symbols ST72324BJ2B6 to ST72324BJ2TA]

## ST72324BJ2B6
designator U?
8-Bit MCU with 8k ROM, 384b RAM, 10-Bit ADC, Four Timers, SPI and SCI Interface, 42-Pin PDIP, Standard; Note: Pins 1, 10-12, 24 and 39-42 are External Interrupt (EI) pins.; Published: 26-May-2004; DatasheetDocument: rev1.1, Oct-2003; PackageDocument: Oct-2003; PackageReference: PSDIP42; Publisher: Altium Limited
footprint PSDIP42 (DIP, Plastic Shrink; 42 Leads; Row Spacing 15.24 mm; Pitch 1.78 mm)
pins: 1 PB4 (HS) (io), 2 PD0/AIN0 (io), 3 PD1/AIN1 (io), 4 PD2/AIN2 (io), 5 PD3/AIN3 (io), 6 PD4/AIN4 (io), 7 PD5/AIN5 (io), 8 VAREF (power), 9 VSSA (power), 10 PF0/AIN8/MCO (io), 11 PF1 (HS)/BEEP (io), 12 PF2 (HS) (io), 13 PF4/AIN10/OCMP1_A (io), 14 PF6 (HS)/ICAP1_A (io), 15 PF7 (HS)/EXTCLK_A (io), 16 PC0/OCMP2_B/AIN12 (io), 17 PC1/OCMP1_B/AIN13 (io), 18 PC2 (HS)/ICAP2_B (io), 19 PC3 (HS)/ICAP1_B (io), 20 PC4/MISO/ICCDATA (io), 21 PC5/MOSI/AIN14 (io), 22 PC6/SCK/ICCCLK (io), 23 PC7/~{SS}/AIN15 (io), 24 PA3 (HS) (io), 25 VDD_1 (power), 26 VSS_1 (power), 27 PA4 (HS) (io), 28 PA5 (HS) (io), 29 PA6 (HS) (io), 30 PA7 (HS) (io), 31 VPP/ICCSEL (in), 32 ~{RESET} (io), 33 VSS_2 (power), 34 OSC2 (out), 35 OSC1 (in), 36 VDD_2 (power), 37 PE0/TDO (io), 38 PE1/RDI (io), 39 PB0 (io), 40 PB1 (io), 41 PB2 (io), 42 PB3 (io)

## ST72324BJ2BA
designator U?
8-Bit MCU with 8k ROM, 384b RAM, 10-Bit ADC, Four Timers, SPI and SCI Interface, 42-Pin PDIP, Automotive; Note: Pins 1, 10-12, 24 and 39-42 are External Interrupt (EI) pins.; Published: 26-May-2004; DatasheetDocument: rev1.1, Oct-2003; PackageDocument: Oct-2003; PackageReference: PSDIP42; Publisher: Altium Limited
footprint PSDIP42 (DIP, Plastic Shrink; 42 Leads; Row Spacing 15.24 mm; Pitch 1.78 mm)
pins: 1 PB4 (HS) (io), 2 PD0/AIN0 (io), 3 PD1/AIN1 (io), 4 PD2/AIN2 (io), 5 PD3/AIN3 (io), 6 PD4/AIN4 (io), 7 PD5/AIN5 (io), 8 VAREF (power), 9 VSSA (power), 10 PF0/AIN8/MCO (io), 11 PF1 (HS)/BEEP (io), 12 PF2 (HS) (io), 13 PF4/AIN10/OCMP1_A (io), 14 PF6 (HS)/ICAP1_A (io), 15 PF7 (HS)/EXTCLK_A (io), 16 PC0/OCMP2_B/AIN12 (io), 17 PC1/OCMP1_B/AIN13 (io), 18 PC2 (HS)/ICAP2_B (io), 19 PC3 (HS)/ICAP1_B (io), 20 PC4/MISO/ICCDATA (io), 21 PC5/MOSI/AIN14 (io), 22 PC6/SCK/ICCCLK (io), 23 PC7/~{SS}/AIN15 (io), 24 PA3 (HS) (io), 25 VDD_1 (power), 26 VSS_1 (power), 27 PA4 (HS) (io), 28 PA5 (HS) (io), 29 PA6 (HS) (io), 30 PA7 (HS) (io), 31 VPP/ICCSEL (in), 32 ~{RESET} (io), 33 VSS_2 (power), 34 OSC2 (out), 35 OSC1 (in), 36 VDD_2 (power), 37 PE0/TDO (io), 38 PE1/RDI (io), 39 PB0 (io), 40 PB1 (io), 41 PB2 (io), 42 PB3 (io)

## ST72324BJ2BB
designator U?
8-Bit MCU with 8k ROM, 384b RAM, 10-Bit ADC, Four Timers, SPI and SCI Interface, 42-Pin PDIP, Automotive; Note: Pins 1, 10-12, 24 and 39-42 are External Interrupt (EI) pins.; Published: 26-May-2004; DatasheetDocument: rev1.1, Oct-2003; PackageDocument: Oct-2003; PackageReference: PSDIP42; Publisher: Altium Limited
footprint PSDIP42 (DIP, Plastic Shrink; 42 Leads; Row Spacing 15.24 mm; Pitch 1.78 mm)
pins: 1 PB4 (HS) (io), 2 PD0/AIN0 (io), 3 PD1/AIN1 (io), 4 PD2/AIN2 (io), 5 PD3/AIN3 (io), 6 PD4/AIN4 (io), 7 PD5/AIN5 (io), 8 VAREF (power), 9 VSSA (power), 10 PF0/AIN8/MCO (io), 11 PF1 (HS)/BEEP (io), 12 PF2 (HS) (io), 13 PF4/AIN10/OCMP1_A (io), 14 PF6 (HS)/ICAP1_A (io), 15 PF7 (HS)/EXTCLK_A (io), 16 PC0/OCMP2_B/AIN12 (io), 17 PC1/OCMP1_B/AIN13 (io), 18 PC2 (HS)/ICAP2_B (io), 19 PC3 (HS)/ICAP1_B (io), 20 PC4/MISO/ICCDATA (io), 21 PC5/MOSI/AIN14 (io), 22 PC6/SCK/ICCCLK (io), 23 PC7/~{SS}/AIN15 (io), 24 PA3 (HS) (io), 25 VDD_1 (power), 26 VSS_1 (power), 27 PA4 (HS) (io), 28 PA5 (HS) (io), 29 PA6 (HS) (io), 30 PA7 (HS) (io), 31 VPP/ICCSEL (in), 32 ~{RESET} (io), 33 VSS_2 (power), 34 OSC2 (out), 35 OSC1 (in), 36 VDD_2 (power), 37 PE0/TDO (io), 38 PE1/RDI (io), 39 PB0 (io), 40 PB1 (io), 41 PB2 (io), 42 PB3 (io)